# Altium integrated library Lattice CPLD ispMACH.IntLib: 663 symbols (part 16 of 48)
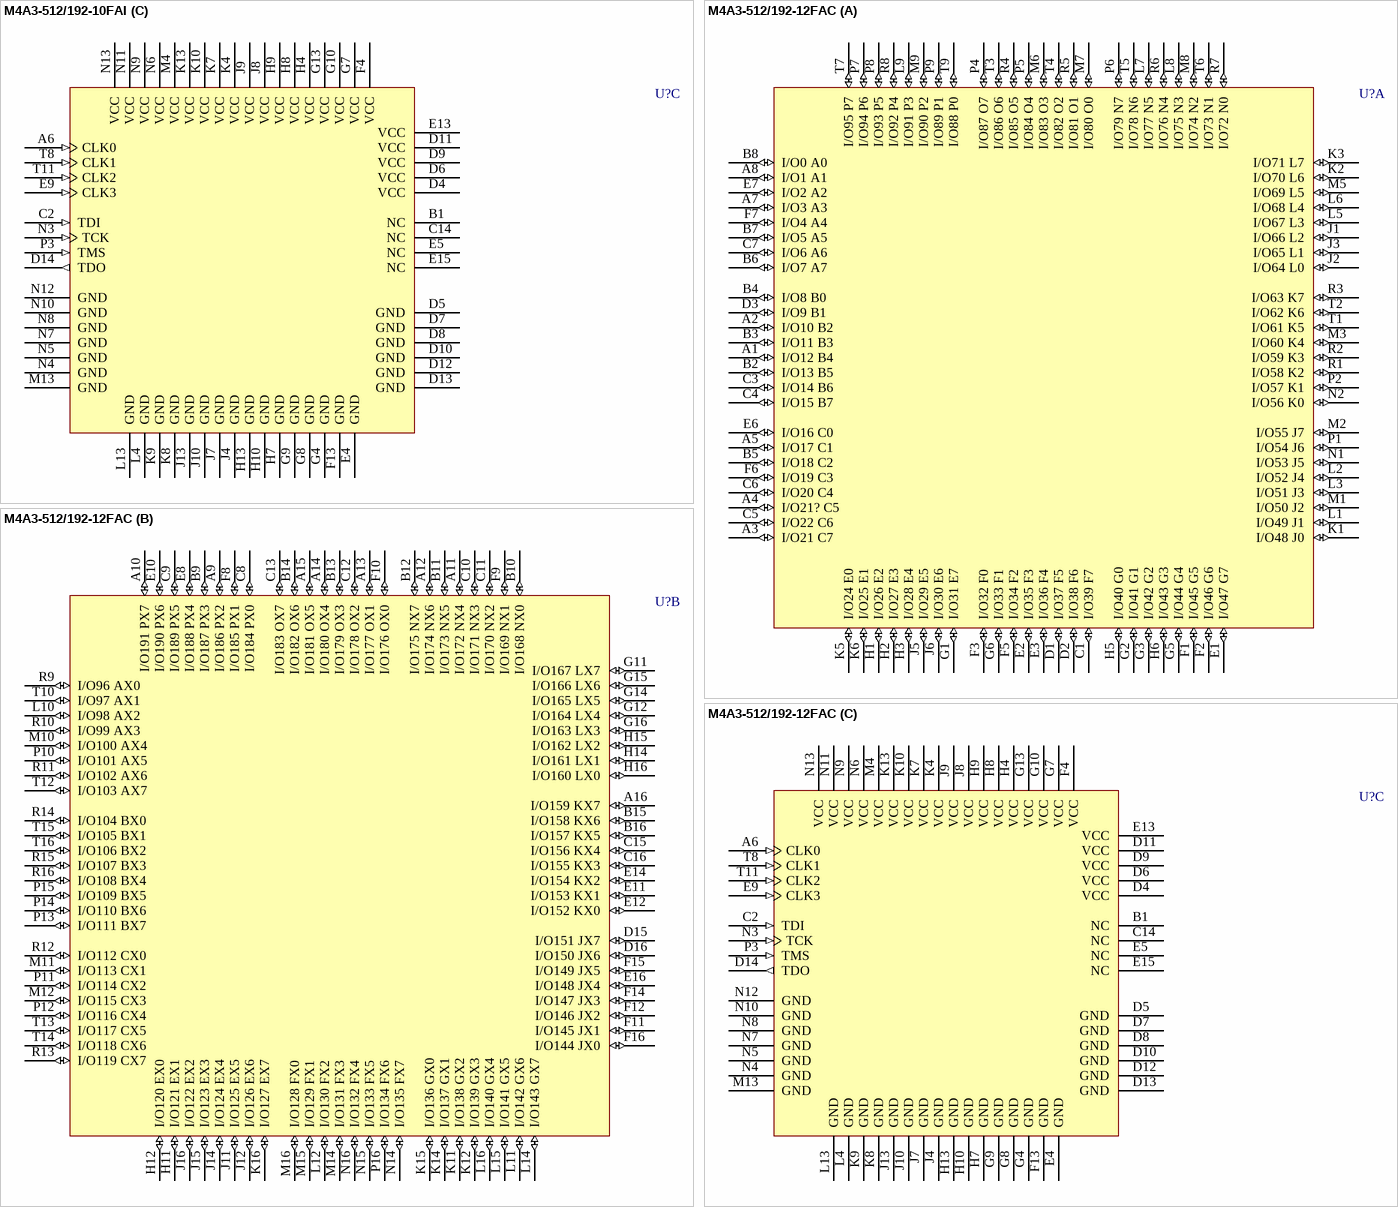
[diagram p321: symbols M4A3-512/192-10FAI to M4A3-512/192-12FAC]

## M4A3-512/192-10FAI
designator U?
High-Performance EE CMOS In-System Programmable Logic; Published: 17-Jul-2002; LatestRevisionDate: 13-Apr-2006; LatestRevisionNote: IPC-7351 Footprint Added.; DatasheetVersion: Feb-2001; PackageVersion: pkg_32, Aug-2005; PackageReference: fpBGA256; Publisher: Altium Limited; PackageDescription: 256-Ball Fine Pitch Ball Grid Array (fpBGA256); Code_IPC: BGA100P16X16-256; ComponentLink1Description: Manufacturer Link; ComponentLink1URL: http://www.latticesemi.com/products/mature/index.cfm; ComponentLink2Description: Datasheet; ComponentLink2URL: http://www.latticesemi.com/account/_download.cfm?AMID=1344
footprint fpBGA256 (BGA, 256-Leads, Body 17x17mm, Pitch 1mm)
3D model M4A3-fpBGA256 (256-Ball Fine Pitch Ball Grid Array (fpBGA256))
part A pins: A1 I/O12 B4 (io), A2 I/O10 B2 (io), A3 I/O21 C7 (io), A4 I/O21? C5 (io), A5 I/O17 C1 (io), A7 I/O3 A3 (io), A8 I/O1 A1 (io), B2 I/O13 B5 (io), B3 I/O11 B3 (io), B4 I/O8 B0 (io), B5 I/O18 C2 (io), B6 I/O7 A7 (io), B7 I/O5 A5 (io), B8 I/O0 A0 (io), C1 I/O39 F7 (io), C3 I/O14 B6 (io), C4 I/O15 B7 (io), C5 I/O22 C6 (io), C6 I/O20 C4 (io), C7 I/O6 A6 (io), D1 I/O37 F5 (io), D2 I/O38 F6 (io), D3 I/O9 B1 (io), E1 I/O47 G7 (io), E2 I/O35 F3 (io), E3 I/O36 F4 (io), E6 I/O16 C0 (io), E7 I/O2 A2 (io), F1 I/O45 G5 (io), F2 I/O46 G6 (io), F3 I/O32 F0 (io), F5 I/O34 F2 (io), F6 I/O19 C3 (io), F7 I/O4 A4 (io), G1 I/O31 E7 (io), G2 I/O41 G1 (io), G3 I/O42 G2 (io), G5 I/O44 G4 (io), G6 I/O33 F1 (io), H1 I/O26 E2 (io), H2 I/O27 E3 (io), H3 I/O28 E4 (io), H5 I/O40 G0 (io), H6 I/O43 G3 (io), J1 I/O66 L2 (io), J2 I/O64 L0 (io), J3 I/O65 L1 (io), J5 I/O29 E5 (io), J6 I/O30 E6 (io), K1 I/O48 J0 (io), K2 I/O70 L6 (io), K3 I/O71 L7 (io), K5 I/O24 E0 (io), K6 I/O25 E1 (io), L1 I/O49 J1 (io), L2 I/O52 J4 (io), L3 I/O51 J3 (io), L5 I/O67 L3 (io), L6 I/O68 L4 (io), L7 I/O77 N5 (io), L8 I/O75 N3 (io), L9 I/O91 P3 (io), M1 I/O50 J2 (io), M2 I/O55 J7 (io), M3 I/O60 K4 (io), M5 I/O69 L5 (io), M6 I/O83 O3 (io), M7 I/O80 O0 (io), M8 I/O74 N2 (io), M9 I/O90 P2 (io), N1 I/O53 J5 (io), N2 I/O56 K0 (io), P1 I/O54 J6 (io), P2 I/O57 K1 (io), P4 I/O87 O7 (io), P5 I/O84 O4 (io), P6 I/O79 N7 (io), P7 I/O94 P6 (io), P8 I/O93 P5 (io), P9 I/O89 P1 (io), R1 I/O58 K2 (io), R2 I/O59 K3 (io), R3 I/O63 K7 (io), R4 I/O85 O5 (io), R5 I/O81 O1 (io), R6 I/O76 N4 (io), R7 I/O72 N0 (io), R8 I/O92 P4 (io), T1 I/O61 K5 (io), T2 I/O62 K6 (io), T3 I/O86 O6 (io), T4 I/O82 O2 (io), T5 I/O78 N6 (io), T6 I/O73 N1 (io), T7 I/O95 P7 (io), T9 I/O88 P0 (io)
part B pins: A9 I/O186 PX2 (io), A10 I/O191 PX7 (io), A11 I/O172 NX4 (io), A12 I/O174 NX6 (io), A13 I/O177 OX1 (io), A14 I/O180 OX4 (io), A15 I/O181 OX5 (io), A16 I/O159 KX7 (io), B9 I/O187 PX3 (io), B10 I/O168 NX0 (io), B11 I/O173 NX5 (io), B12 I/O175 NX7 (io), B13 I/O179 OX3 (io), B14 I/O182 OX6 (io), B15 I/O158 KX6 (io), B16 I/O157 KX5 (io), C8 I/O184 PX0 (io), C9 I/O189 PX5 (io), C10 I/O171 NX3 (io), C11 I/O170 NX2 (io), C12 I/O178 OX2 (io), C13 I/O183 OX7 (io), C15 I/O156 KX4 (io), C16 I/O155 KX3 (io), D15 I/O151 JX7 (io), D16 I/O150 JX6 (io), E8 I/O188 PX4 (io), E10 I/O190 PX6 (io), E11 I/O153 KX1 (io), E12 I/O152 KX0 (io), E14 I/O154 KX2 (io), E16 I/O148 JX4 (io), F8 I/O185 PX1 (io), F9 I/O169 NX1 (io), F10 I/O176 OX0 (io), F11 I/O145 JX1 (io), F12 I/O146 JX2 (io), F14 I/O147 JX3 (io), F15 I/O149 JX5 (io), F16 I/O144 JX0 (io), G11 I/O167 LX7 (io), G12 I/O164 LX4 (io), G14 I/O165 LX5 (io), G15 I/O166 LX6 (io), G16 I/O163 LX3 (io), H11 I/O121 EX1 (io), H12 I/O120 EX0 (io), H14 I/O161 LX1 (io), H15 I/O162 LX2 (io), H16 I/O160 LX0 (io), J11 I/O125 EX5 (io), J12 I/O126 EX6 (io), J14 I/O124 EX4 (io), J15 I/O123 EX3 (io), J16 I/O122 EX2 (io), K11 I/O138 GX2 (io), K12 I/O139 GX3 (io), K14 I/O137 GX1 (io), K15 I/O136 GX0 (io), K16 I/O127 EX7 (io), L10 I/O98 AX2 (io), L11 I/O142 GX6 (io), L12 I/O130 FX2 (io), L14 I/O143 GX7 (io), L15 I/O141 GX5 (io), L16 I/O140 GX4 (io), M10 I/O100 AX4 (io), M11 I/O113 CX1 (io), M12 I/O115 CX3 (io), M14 I/O131 FX3 (io), M15 I/O129 FX1 (io), M16 I/O128 FX0 (io), N14 I/O135 FX7 (io), N15 I/O133 FX5 (io), N16 I/O132 FX4 (io), P10 I/O101 AX5 (io), P11 I/O114 CX2 (io), P12 I/O116 CX4 (io), P13 I/O111 BX7 (io), P14 I/O110 BX6 (io), P15 I/O109 BX5 (io), P16 I/O134 FX6 (io), R9 I/O96 AX0 (io), R10 I/O99 AX3 (io), R11 I/O102 AX6 (io), R12 I/O112 CX0 (io), R13 I/O119 CX7 (io), R14 I/O104 BX0 (io), R15 I/O107 BX3 (io), R16 I/O108 BX4 (io), T10 I/O97 AX1 (io), T12 I/O103 AX7 (io), T13 I/O117 CX5 (io), T14 I/O118 CX6 (io), T15 I/O105 BX1 (io), T16 I/O106 BX2 (io)
part C pins: A6 CLK0 (in), B1 NC, C2 TDI (in), C14 NC, D4 VCC (power), D5 GND (power), D6 VCC (power), D7 GND (power), D8 GND (power), D9 VCC (power), D10 GND (power), D11 VCC (power), D12 GND (power), D13 GND (power), D14 TDO (out), E4 GND (power), E5 NC, E9 CLK3 (in), E13 VCC (power), E15 NC, F4 VCC (power), F13 GND (power), G4 GND (power), G7 VCC (power), G8 GND (power), G9 GND (power), G10 VCC (power), G13 VCC (power), H4 VCC (power), H7 GND (power), H8 VCC (power), H9 VCC (power), H10 GND (power), H13 GND (power), J4 GND (power), J7 GND (power), J8 VCC (power), J9 VCC (power), J10 GND (power), J13 GND (power), K4 VCC (power), K7 VCC (power), K8 GND (power), K9 GND (power), K10 VCC (power), K13 VCC (power), L4 GND (power), L13 GND (power), M4 VCC (power), M13 GND (power), N3 TCK (in), N4 GND (power), N5 GND (power), N6 VCC (power), N7 GND (power), N8 GND (power), N9 VCC (power), N10 GND (power), N11 VCC (power), N12 GND (power), N13 VCC (power), P3 TMS (in), T8 CLK1 (in), T11 CLK2 (in)

## M4A3-512/192-12FAC
designator U?
High-Performance EE CMOS In-System Programmable Logic; Published: 17-Jul-2002; LatestRevisionDate: 13-Apr-2006; LatestRevisionNote: IPC-7351 Footprint Added.; DatasheetVersion: Feb-2001; PackageVersion: pkg_32, Aug-2005; PackageReference: fpBGA256; Publisher: Altium Limited; PackageDescription: 256-Ball Fine Pitch Ball Grid Array (fpBGA256); Code_IPC: BGA100P16X16-256; ComponentLink1Description: Manufacturer Link; ComponentLink1URL: http://www.latticesemi.com/products/mature/index.cfm; ComponentLink2Description: Datasheet; ComponentLink2URL: http://www.latticesemi.com/account/_download.cfm?AMID=1344
footprint fpBGA256 (BGA, 256-Leads, Body 17x17mm, Pitch 1mm)
3D model M4A3-fpBGA256 (256-Ball Fine Pitch Ball Grid Array (fpBGA256))
part A pins: A1 I/O12 B4 (io), A2 I/O10 B2 (io), A3 I/O21 C7 (io), A4 I/O21? C5 (io), A5 I/O17 C1 (io), A7 I/O3 A3 (io), A8 I/O1 A1 (io), B2 I/O13 B5 (io), B3 I/O11 B3 (io), B4 I/O8 B0 (io), B5 I/O18 C2 (io), B6 I/O7 A7 (io), B7 I/O5 A5 (io), B8 I/O0 A0 (io), C1 I/O39 F7 (io), C3 I/O14 B6 (io), C4 I/O15 B7 (io), C5 I/O22 C6 (io), C6 I/O20 C4 (io), C7 I/O6 A6 (io), D1 I/O37 F5 (io), D2 I/O38 F6 (io), D3 I/O9 B1 (io), E1 I/O47 G7 (io), E2 I/O35 F3 (io), E3 I/O36 F4 (io), E6 I/O16 C0 (io), E7 I/O2 A2 (io), F1 I/O45 G5 (io), F2 I/O46 G6 (io), F3 I/O32 F0 (io), F5 I/O34 F2 (io), F6 I/O19 C3 (io), F7 I/O4 A4 (io), G1 I/O31 E7 (io), G2 I/O41 G1 (io), G3 I/O42 G2 (io), G5 I/O44 G4 (io), G6 I/O33 F1 (io), H1 I/O26 E2 (io), H2 I/O27 E3 (io), H3 I/O28 E4 (io), H5 I/O40 G0 (io), H6 I/O43 G3 (io), J1 I/O66 L2 (io), J2 I/O64 L0 (io), J3 I/O65 L1 (io), J5 I/O29 E5 (io), J6 I/O30 E6 (io), K1 I/O48 J0 (io), K2 I/O70 L6 (io), K3 I/O71 L7 (io), K5 I/O24 E0 (io), K6 I/O25 E1 (io), L1 I/O49 J1 (io), L2 I/O52 J4 (io), L3 I/O51 J3 (io), L5 I/O67 L3 (io), L6 I/O68 L4 (io), L7 I/O77 N5 (io), L8 I/O75 N3 (io), L9 I/O91 P3 (io), M1 I/O50 J2 (io), M2 I/O55 J7 (io), M3 I/O60 K4 (io), M5 I/O69 L5 (io), M6 I/O83 O3 (io), M7 I/O80 O0 (io), M8 I/O74 N2 (io), M9 I/O90 P2 (io), N1 I/O53 J5 (io), N2 I/O56 K0 (io), P1 I/O54 J6 (io), P2 I/O57 K1 (io), P4 I/O87 O7 (io), P5 I/O84 O4 (io), P6 I/O79 N7 (io), P7 I/O94 P6 (io), P8 I/O93 P5 (io), P9 I/O89 P1 (io), R1 I/O58 K2 (io), R2 I/O59 K3 (io), R3 I/O63 K7 (io), R4 I/O85 O5 (io), R5 I/O81 O1 (io), R6 I/O76 N4 (io), R7 I/O72 N0 (io), R8 I/O92 P4 (io), T1 I/O61 K5 (io), T2 I/O62 K6 (io), T3 I/O86 O6 (io), T4 I/O82 O2 (io), T5 I/O78 N6 (io), T6 I/O73 N1 (io), T7 I/O95 P7 (io), T9 I/O88 P0 (io)
part B pins: A9 I/O186 PX2 (io), A10 I/O191 PX7 (io), A11 I/O172 NX4 (io), A12 I/O174 NX6 (io), A13 I/O177 OX1 (io), A14 I/O180 OX4 (io), A15 I/O181 OX5 (io), A16 I/O159 KX7 (io), B9 I/O187 PX3 (io), B10 I/O168 NX0 (io), B11 I/O173 NX5 (io), B12 I/O175 NX7 (io), B13 I/O179 OX3 (io), B14 I/O182 OX6 (io), B15 I/O158 KX6 (io), B16 I/O157 KX5 (io), C8 I/O184 PX0 (io), C9 I/O189 PX5 (io), C10 I/O171 NX3 (io), C11 I/O170 NX2 (io), C12 I/O178 OX2 (io), C13 I/O183 OX7 (io), C15 I/O156 KX4 (io), C16 I/O155 KX3 (io), D15 I/O151 JX7 (io), D16 I/O150 JX6 (io), E8 I/O188 PX4 (io), E10 I/O190 PX6 (io), E11 I/O153 KX1 (io), E12 I/O152 KX0 (io), E14 I/O154 KX2 (io), E16 I/O148 JX4 (io), F8 I/O185 PX1 (io), F9 I/O169 NX1 (io), F10 I/O176 OX0 (io), F11 I/O145 JX1 (io), F12 I/O146 JX2 (io), F14 I/O147 JX3 (io), F15 I/O149 JX5 (io), F16 I/O144 JX0 (io), G11 I/O167 LX7 (io), G12 I/O164 LX4 (io), G14 I/O165 LX5 (io), G15 I/O166 LX6 (io), G16 I/O163 LX3 (io), H11 I/O121 EX1 (io), H12 I/O120 EX0 (io), H14 I/O161 LX1 (io), H15 I/O162 LX2 (io), H16 I/O160 LX0 (io), J11 I/O125 EX5 (io), J12 I/O126 EX6 (io), J14 I/O124 EX4 (io), J15 I/O123 EX3 (io), J16 I/O122 EX2 (io), K11 I/O138 GX2 (io), K12 I/O139 GX3 (io), K14 I/O137 GX1 (io), K15 I/O136 GX0 (io), K16 I/O127 EX7 (io), L10 I/O98 AX2 (io), L11 I/O142 GX6 (io), L12 I/O130 FX2 (io), L14 I/O143 GX7 (io), L15 I/O141 GX5 (io), L16 I/O140 GX4 (io), M10 I/O100 AX4 (io), M11 I/O113 CX1 (io), M12 I/O115 CX3 (io), M14 I/O131 FX3 (io), M15 I/O129 FX1 (io), M16 I/O128 FX0 (io), N14 I/O135 FX7 (io), N15 I/O133 FX5 (io), N16 I/O132 FX4 (io), P10 I/O101 AX5 (io), P11 I/O114 CX2 (io), P12 I/O116 CX4 (io), P13 I/O111 BX7 (io), P14 I/O110 BX6 (io), P15 I/O109 BX5 (io), P16 I/O134 FX6 (io), R9 I/O96 AX0 (io), R10 I/O99 AX3 (io), R11 I/O102 AX6 (io), R12 I/O112 CX0 (io), R13 I/O119 CX7 (io), R14 I/O104 BX0 (io), R15 I/O107 BX3 (io), R16 I/O108 BX4 (io), T10 I/O97 AX1 (io), T12 I/O103 AX7 (io), T13 I/O117 CX5 (io), T14 I/O118 CX6 (io), T15 I/O105 BX1 (io), T16 I/O106 BX2 (io)
part C pins: A6 CLK0 (in), B1 NC, C2 TDI (in), C14 NC, D4 VCC (power), D5 GND (power), D6 VCC (power), D7 GND (power), D8 GND (power), D9 VCC (power), D10 GND (power), D11 VCC (power), D12 GND (power), D13 GND (power), D14 TDO (out), E4 GND (power), E5 NC, E9 CLK3 (in), E13 VCC (power), E15 NC, F4 VCC (power), F13 GND (power), G4 GND (power), G7 VCC (power), G8 GND (power), G9 GND (power), G10 VCC (power), G13 VCC (power), H4 VCC (power), H7 GND (power), H8 VCC (power), H9 VCC (power), H10 GND (power), H13 GND (power), J4 GND (power), J7 GND (power), J8 VCC (power), J9 VCC (power), J10 GND (power), J13 GND (power), K4 VCC (power), K7 VCC (power), K8 GND (power), K9 GND (power), K10 VCC (power), K13 VCC (power), L4 GND (power), L13 GND (power), M4 VCC (power), M13 GND (power), N3 TCK (in), N4 GND (power), N5 GND (power), N6 VCC (power), N7 GND (power), N8 GND (power), N9 VCC (power), N10 GND (power), N11 VCC (power), N12 GND (power), N13 VCC (power), P3 TMS (in), T8 CLK1 (in), T11 CLK2 (in)

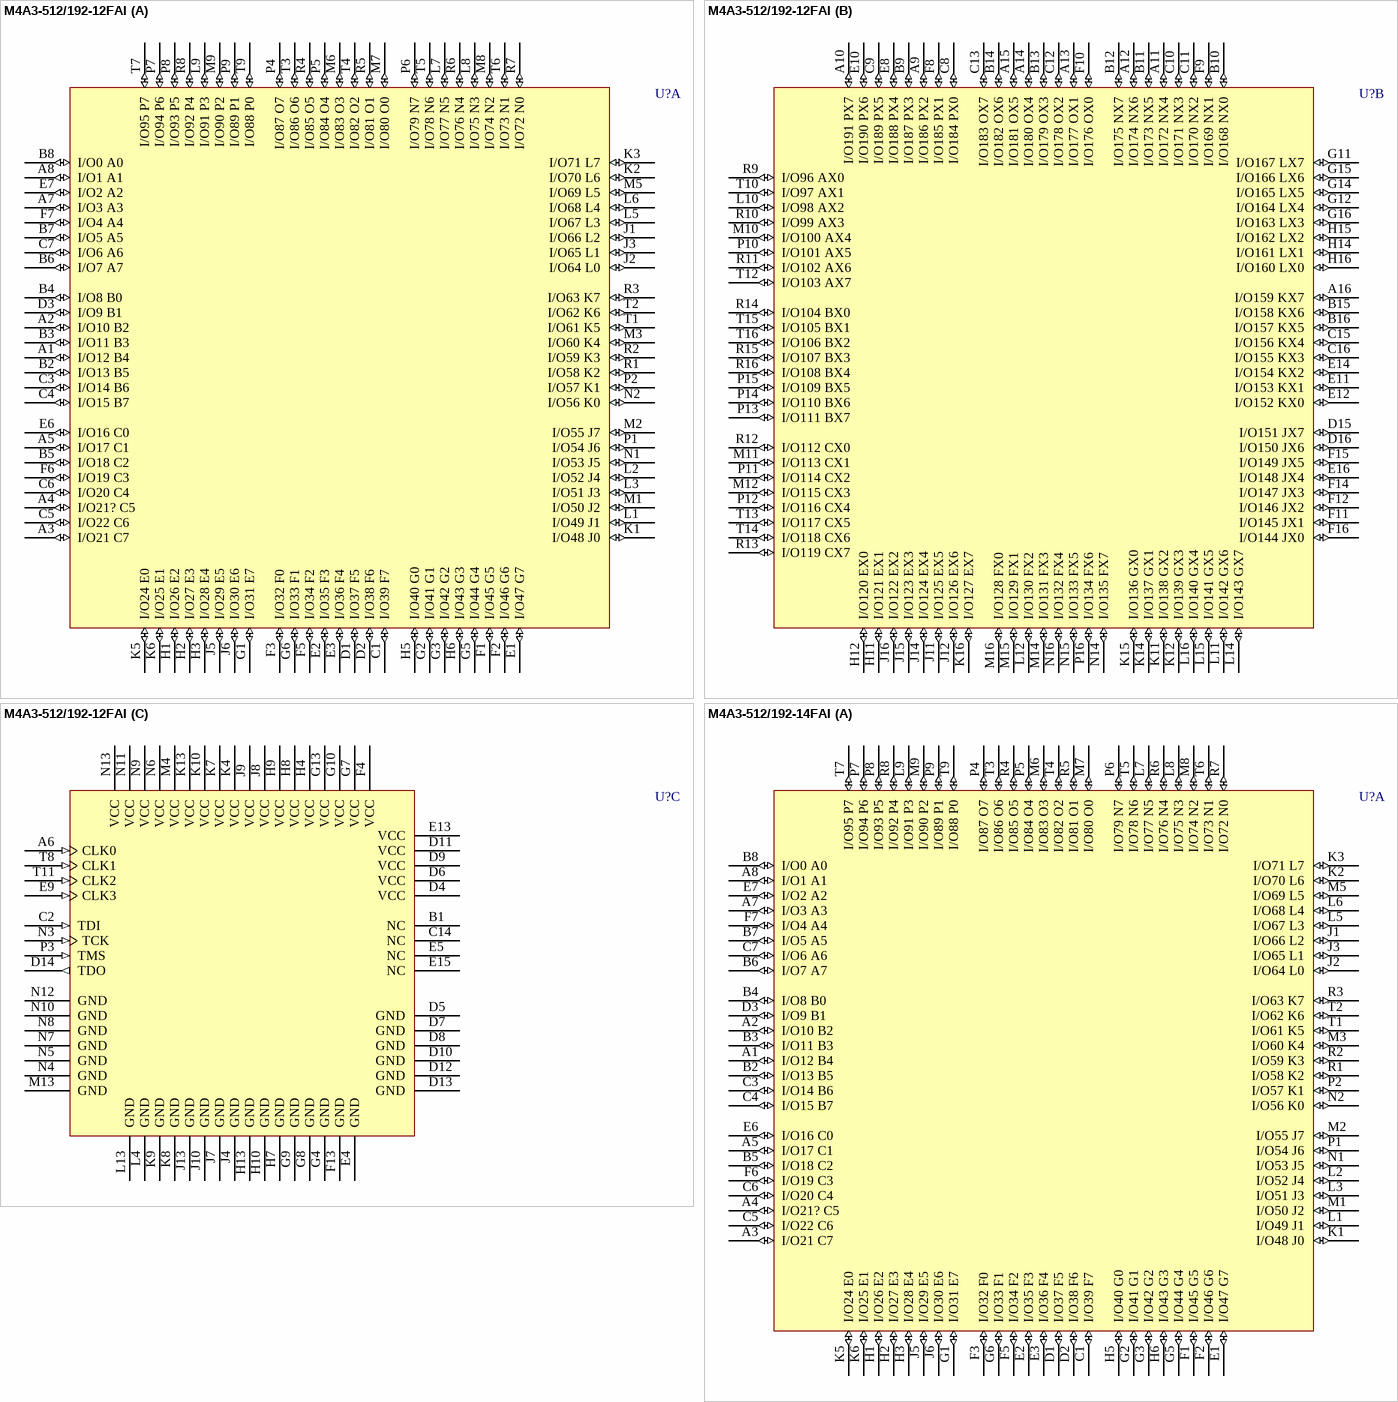
[diagram p95: symbols M4A3-512/192-12FAI to M4A3-512/192-14FAI]

## M4A3-512/192-12FAI
designator U?
High-Performance EE CMOS In-System Programmable Logic; Published: 17-Jul-2002; LatestRevisionDate: 13-Apr-2006; LatestRevisionNote: IPC-7351 Footprint Added.; DatasheetVersion: Feb-2001; PackageVersion: pkg_32, Aug-2005; PackageReference: fpBGA256; Publisher: Altium Limited; PackageDescription: 256-Ball Fine Pitch Ball Grid Array (fpBGA256); Code_IPC: BGA100P16X16-256; ComponentLink1Description: Manufacturer Link; ComponentLink1URL: http://www.latticesemi.com/products/mature/index.cfm; ComponentLink2Description: Datasheet; ComponentLink2URL: http://www.latticesemi.com/account/_download.cfm?AMID=1344
footprint fpBGA256 (BGA, 256-Leads, Body 17x17mm, Pitch 1mm)
3D model M4A3-fpBGA256 (256-Ball Fine Pitch Ball Grid Array (fpBGA256))
part A pins: A1 I/O12 B4 (io), A2 I/O10 B2 (io), A3 I/O21 C7 (io), A4 I/O21? C5 (io), A5 I/O17 C1 (io), A7 I/O3 A3 (io), A8 I/O1 A1 (io), B2 I/O13 B5 (io), B3 I/O11 B3 (io), B4 I/O8 B0 (io), B5 I/O18 C2 (io), B6 I/O7 A7 (io), B7 I/O5 A5 (io), B8 I/O0 A0 (io), C1 I/O39 F7 (io), C3 I/O14 B6 (io), C4 I/O15 B7 (io), C5 I/O22 C6 (io), C6 I/O20 C4 (io), C7 I/O6 A6 (io), D1 I/O37 F5 (io), D2 I/O38 F6 (io), D3 I/O9 B1 (io), E1 I/O47 G7 (io), E2 I/O35 F3 (io), E3 I/O36 F4 (io), E6 I/O16 C0 (io), E7 I/O2 A2 (io), F1 I/O45 G5 (io), F2 I/O46 G6 (io), F3 I/O32 F0 (io), F5 I/O34 F2 (io), F6 I/O19 C3 (io), F7 I/O4 A4 (io), G1 I/O31 E7 (io), G2 I/O41 G1 (io), G3 I/O42 G2 (io), G5 I/O44 G4 (io), G6 I/O33 F1 (io), H1 I/O26 E2 (io), H2 I/O27 E3 (io), H3 I/O28 E4 (io), H5 I/O40 G0 (io), H6 I/O43 G3 (io), J1 I/O66 L2 (io), J2 I/O64 L0 (io), J3 I/O65 L1 (io), J5 I/O29 E5 (io), J6 I/O30 E6 (io), K1 I/O48 J0 (io), K2 I/O70 L6 (io), K3 I/O71 L7 (io), K5 I/O24 E0 (io), K6 I/O25 E1 (io), L1 I/O49 J1 (io), L2 I/O52 J4 (io), L3 I/O51 J3 (io), L5 I/O67 L3 (io), L6 I/O68 L4 (io), L7 I/O77 N5 (io), L8 I/O75 N3 (io), L9 I/O91 P3 (io), M1 I/O50 J2 (io), M2 I/O55 J7 (io), M3 I/O60 K4 (io), M5 I/O69 L5 (io), M6 I/O83 O3 (io), M7 I/O80 O0 (io), M8 I/O74 N2 (io), M9 I/O90 P2 (io), N1 I/O53 J5 (io), N2 I/O56 K0 (io), P1 I/O54 J6 (io), P2 I/O57 K1 (io), P4 I/O87 O7 (io), P5 I/O84 O4 (io), P6 I/O79 N7 (io), P7 I/O94 P6 (io), P8 I/O93 P5 (io), P9 I/O89 P1 (io), R1 I/O58 K2 (io), R2 I/O59 K3 (io), R3 I/O63 K7 (io), R4 I/O85 O5 (io), R5 I/O81 O1 (io), R6 I/O76 N4 (io), R7 I/O72 N0 (io), R8 I/O92 P4 (io), T1 I/O61 K5 (io), T2 I/O62 K6 (io), T3 I/O86 O6 (io), T4 I/O82 O2 (io), T5 I/O78 N6 (io), T6 I/O73 N1 (io), T7 I/O95 P7 (io), T9 I/O88 P0 (io)
part B pins: A9 I/O186 PX2 (io), A10 I/O191 PX7 (io), A11 I/O172 NX4 (io), A12 I/O174 NX6 (io), A13 I/O177 OX1 (io), A14 I/O180 OX4 (io), A15 I/O181 OX5 (io), A16 I/O159 KX7 (io), B9 I/O187 PX3 (io), B10 I/O168 NX0 (io), B11 I/O173 NX5 (io), B12 I/O175 NX7 (io), B13 I/O179 OX3 (io), B14 I/O182 OX6 (io), B15 I/O158 KX6 (io), B16 I/O157 KX5 (io), C8 I/O184 PX0 (io), C9 I/O189 PX5 (io), C10 I/O171 NX3 (io), C11 I/O170 NX2 (io), C12 I/O178 OX2 (io), C13 I/O183 OX7 (io), C15 I/O156 KX4 (io), C16 I/O155 KX3 (io), D15 I/O151 JX7 (io), D16 I/O150 JX6 (io), E8 I/O188 PX4 (io), E10 I/O190 PX6 (io), E11 I/O153 KX1 (io), E12 I/O152 KX0 (io), E14 I/O154 KX2 (io), E16 I/O148 JX4 (io), F8 I/O185 PX1 (io), F9 I/O169 NX1 (io), F10 I/O176 OX0 (io), F11 I/O145 JX1 (io), F12 I/O146 JX2 (io), F14 I/O147 JX3 (io), F15 I/O149 JX5 (io), F16 I/O144 JX0 (io), G11 I/O167 LX7 (io), G12 I/O164 LX4 (io), G14 I/O165 LX5 (io), G15 I/O166 LX6 (io), G16 I/O163 LX3 (io), H11 I/O121 EX1 (io), H12 I/O120 EX0 (io), H14 I/O161 LX1 (io), H15 I/O162 LX2 (io), H16 I/O160 LX0 (io), J11 I/O125 EX5 (io), J12 I/O126 EX6 (io), J14 I/O124 EX4 (io), J15 I/O123 EX3 (io), J16 I/O122 EX2 (io), K11 I/O138 GX2 (io), K12 I/O139 GX3 (io), K14 I/O137 GX1 (io), K15 I/O136 GX0 (io), K16 I/O127 EX7 (io), L10 I/O98 AX2 (io), L11 I/O142 GX6 (io), L12 I/O130 FX2 (io), L14 I/O143 GX7 (io), L15 I/O141 GX5 (io), L16 I/O140 GX4 (io), M10 I/O100 AX4 (io), M11 I/O113 CX1 (io), M12 I/O115 CX3 (io), M14 I/O131 FX3 (io), M15 I/O129 FX1 (io), M16 I/O128 FX0 (io), N14 I/O135 FX7 (io), N15 I/O133 FX5 (io), N16 I/O132 FX4 (io), P10 I/O101 AX5 (io), P11 I/O114 CX2 (io), P12 I/O116 CX4 (io), P13 I/O111 BX7 (io), P14 I/O110 BX6 (io), P15 I/O109 BX5 (io), P16 I/O134 FX6 (io), R9 I/O96 AX0 (io), R10 I/O99 AX3 (io), R11 I/O102 AX6 (io), R12 I/O112 CX0 (io), R13 I/O119 CX7 (io), R14 I/O104 BX0 (io), R15 I/O107 BX3 (io), R16 I/O108 BX4 (io), T10 I/O97 AX1 (io), T12 I/O103 AX7 (io), T13 I/O117 CX5 (io), T14 I/O118 CX6 (io), T15 I/O105 BX1 (io), T16 I/O106 BX2 (io)
part C pins: A6 CLK0 (in), B1 NC, C2 TDI (in), C14 NC, D4 VCC (power), D5 GND (power), D6 VCC (power), D7 GND (power), D8 GND (power), D9 VCC (power), D10 GND (power), D11 VCC (power), D12 GND (power), D13 GND (power), D14 TDO (out), E4 GND (power), E5 NC, E9 CLK3 (in), E13 VCC (power), E15 NC, F4 VCC (power), F13 GND (power), G4 GND (power), G7 VCC (power), G8 GND (power), G9 GND (power), G10 VCC (power), G13 VCC (power), H4 VCC (power), H7 GND (power), H8 VCC (power), H9 VCC (power), H10 GND (power), H13 GND (power), J4 GND (power), J7 GND (power), J8 VCC (power), J9 VCC (power), J10 GND (power), J13 GND (power), K4 VCC (power), K7 VCC (power), K8 GND (power), K9 GND (power), K10 VCC (power), K13 VCC (power), L4 GND (power), L13 GND (power), M4 VCC (power), M13 GND (power), N3 TCK (in), N4 GND (power), N5 GND (power), N6 VCC (power), N7 GND (power), N8 GND (power), N9 VCC (power), N10 GND (power), N11 VCC (power), N12 GND (power), N13 VCC (power), P3 TMS (in), T8 CLK1 (in), T11 CLK2 (in)

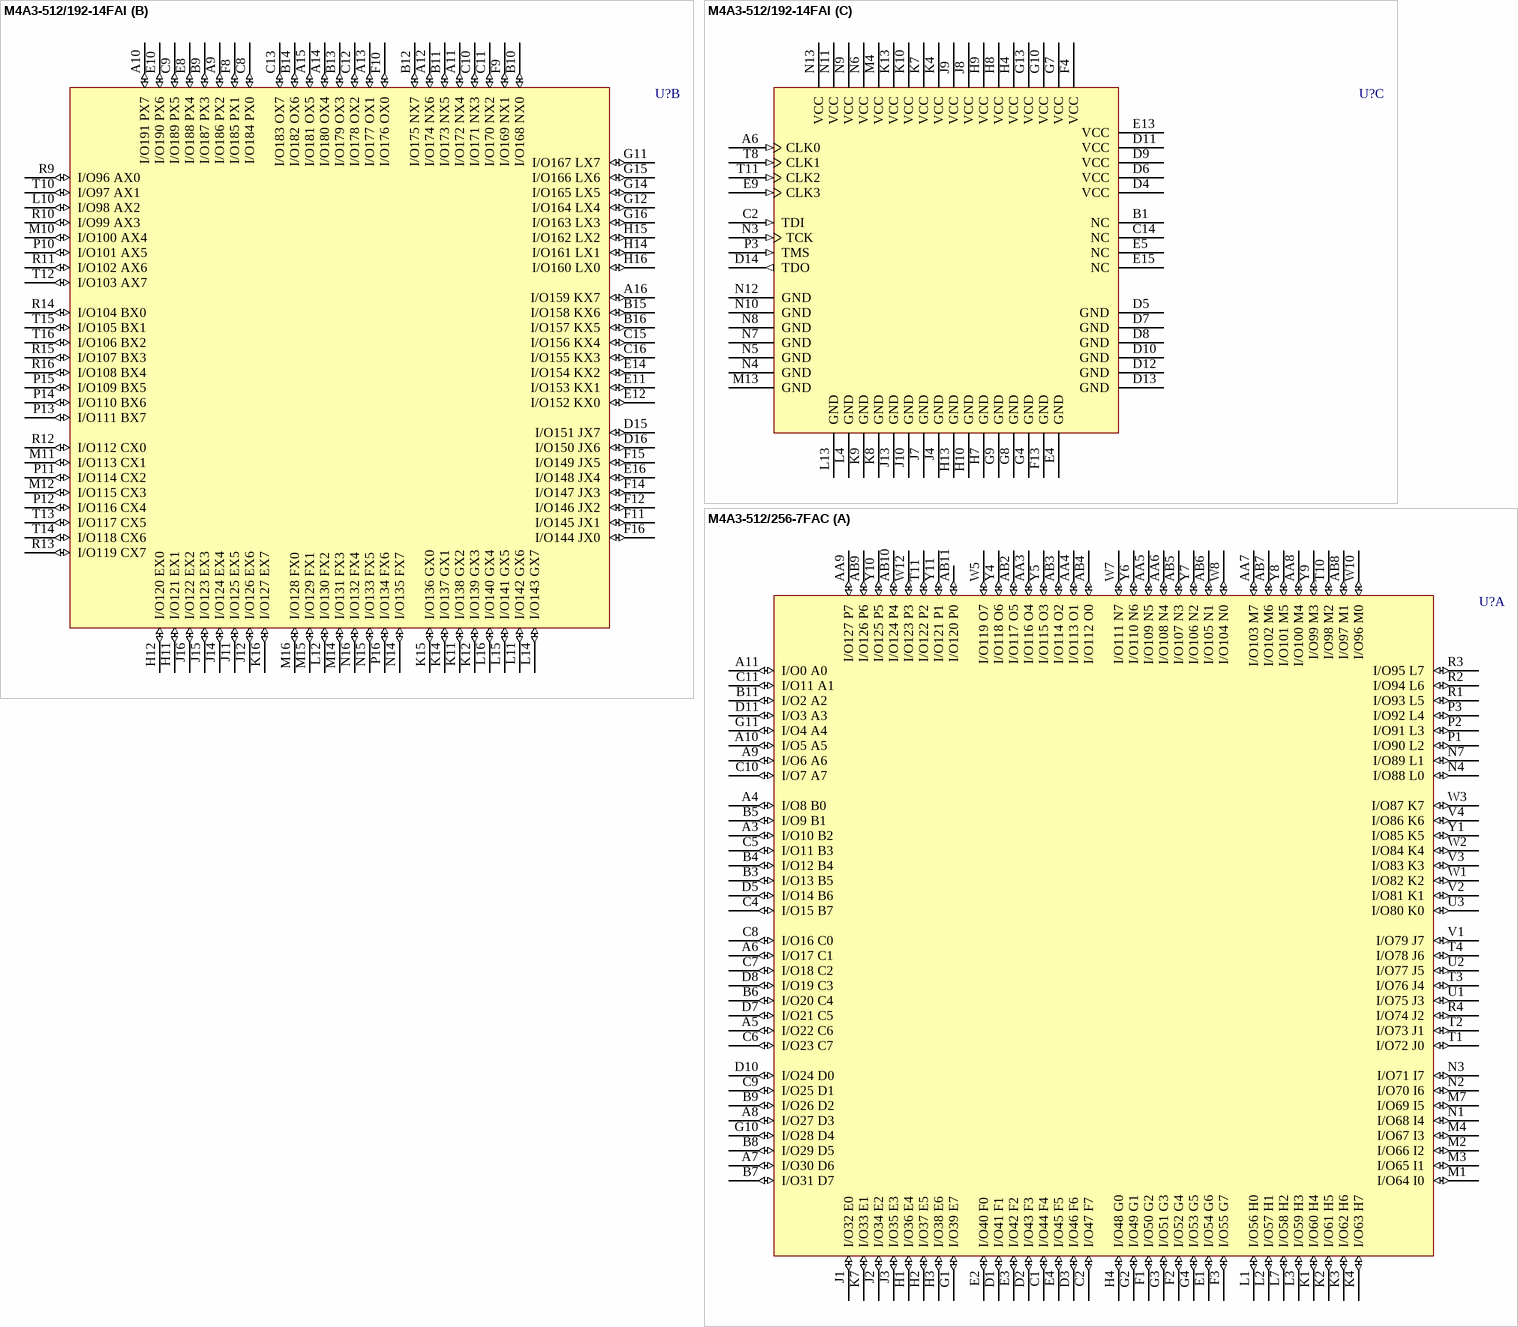
[diagram p96: symbols M4A3-512/192-14FAI to M4A3-512/256-7FAC]

## M4A3-512/192-14FAI
designator U?
High-Performance EE CMOS In-System Programmable Logic; Published: 17-Jul-2002; LatestRevisionDate: 13-Apr-2006; LatestRevisionNote: IPC-7351 Footprint Added.; DatasheetVersion: Feb-2001; PackageVersion: pkg_32, Aug-2005; PackageReference: fpBGA256; Publisher: Altium Limited; PackageDescription: 256-Ball Fine Pitch Ball Grid Array (fpBGA256); Code_IPC: BGA100P16X16-256; ComponentLink1Description: Manufacturer Link; ComponentLink1URL: http://www.latticesemi.com/products/mature/index.cfm; ComponentLink2Description: Datasheet; ComponentLink2URL: http://www.latticesemi.com/account/_download.cfm?AMID=1344
footprint fpBGA256 (BGA, 256-Leads, Body 17x17mm, Pitch 1mm)
3D model M4A3-fpBGA256 (256-Ball Fine Pitch Ball Grid Array (fpBGA256))
part A pins: A1 I/O12 B4 (io), A2 I/O10 B2 (io), A3 I/O21 C7 (io), A4 I/O21? C5 (io), A5 I/O17 C1 (io), A7 I/O3 A3 (io), A8 I/O1 A1 (io), B2 I/O13 B5 (io), B3 I/O11 B3 (io), B4 I/O8 B0 (io), B5 I/O18 C2 (io), B6 I/O7 A7 (io), B7 I/O5 A5 (io), B8 I/O0 A0 (io), C1 I/O39 F7 (io), C3 I/O14 B6 (io), C4 I/O15 B7 (io), C5 I/O22 C6 (io), C6 I/O20 C4 (io), C7 I/O6 A6 (io), D1 I/O37 F5 (io), D2 I/O38 F6 (io), D3 I/O9 B1 (io), E1 I/O47 G7 (io), E2 I/O35 F3 (io), E3 I/O36 F4 (io), E6 I/O16 C0 (io), E7 I/O2 A2 (io), F1 I/O45 G5 (io), F2 I/O46 G6 (io), F3 I/O32 F0 (io), F5 I/O34 F2 (io), F6 I/O19 C3 (io), F7 I/O4 A4 (io), G1 I/O31 E7 (io), G2 I/O41 G1 (io), G3 I/O42 G2 (io), G5 I/O44 G4 (io), G6 I/O33 F1 (io), H1 I/O26 E2 (io), H2 I/O27 E3 (io), H3 I/O28 E4 (io), H5 I/O40 G0 (io), H6 I/O43 G3 (io), J1 I/O66 L2 (io), J2 I/O64 L0 (io), J3 I/O65 L1 (io), J5 I/O29 E5 (io), J6 I/O30 E6 (io), K1 I/O48 J0 (io), K2 I/O70 L6 (io), K3 I/O71 L7 (io), K5 I/O24 E0 (io), K6 I/O25 E1 (io), L1 I/O49 J1 (io), L2 I/O52 J4 (io), L3 I/O51 J3 (io), L5 I/O67 L3 (io), L6 I/O68 L4 (io), L7 I/O77 N5 (io), L8 I/O75 N3 (io), L9 I/O91 P3 (io), M1 I/O50 J2 (io), M2 I/O55 J7 (io), M3 I/O60 K4 (io), M5 I/O69 L5 (io), M6 I/O83 O3 (io), M7 I/O80 O0 (io), M8 I/O74 N2 (io), M9 I/O90 P2 (io), N1 I/O53 J5 (io), N2 I/O56 K0 (io), P1 I/O54 J6 (io), P2 I/O57 K1 (io), P4 I/O87 O7 (io), P5 I/O84 O4 (io), P6 I/O79 N7 (io), P7 I/O94 P6 (io), P8 I/O93 P5 (io), P9 I/O89 P1 (io), R1 I/O58 K2 (io), R2 I/O59 K3 (io), R3 I/O63 K7 (io), R4 I/O85 O5 (io), R5 I/O81 O1 (io), R6 I/O76 N4 (io), R7 I/O72 N0 (io), R8 I/O92 P4 (io), T1 I/O61 K5 (io), T2 I/O62 K6 (io), T3 I/O86 O6 (io), T4 I/O82 O2 (io), T5 I/O78 N6 (io), T6 I/O73 N1 (io), T7 I/O95 P7 (io), T9 I/O88 P0 (io)
part B pins: A9 I/O186 PX2 (io), A10 I/O191 PX7 (io), A11 I/O172 NX4 (io), A12 I/O174 NX6 (io), A13 I/O177 OX1 (io), A14 I/O180 OX4 (io), A15 I/O181 OX5 (io), A16 I/O159 KX7 (io), B9 I/O187 PX3 (io), B10 I/O168 NX0 (io), B11 I/O173 NX5 (io), B12 I/O175 NX7 (io), B13 I/O179 OX3 (io), B14 I/O182 OX6 (io), B15 I/O158 KX6 (io), B16 I/O157 KX5 (io), C8 I/O184 PX0 (io), C9 I/O189 PX5 (io), C10 I/O171 NX3 (io), C11 I/O170 NX2 (io), C12 I/O178 OX2 (io), C13 I/O183 OX7 (io), C15 I/O156 KX4 (io), C16 I/O155 KX3 (io), D15 I/O151 JX7 (io), D16 I/O150 JX6 (io), E8 I/O188 PX4 (io), E10 I/O190 PX6 (io), E11 I/O153 KX1 (io), E12 I/O152 KX0 (io), E14 I/O154 KX2 (io), E16 I/O148 JX4 (io), F8 I/O185 PX1 (io), F9 I/O169 NX1 (io), F10 I/O176 OX0 (io), F11 I/O145 JX1 (io), F12 I/O146 JX2 (io), F14 I/O147 JX3 (io), F15 I/O149 JX5 (io), F16 I/O144 JX0 (io), G11 I/O167 LX7 (io), G12 I/O164 LX4 (io), G14 I/O165 LX5 (io), G15 I/O166 LX6 (io), G16 I/O163 LX3 (io), H11 I/O121 EX1 (io), H12 I/O120 EX0 (io), H14 I/O161 LX1 (io), H15 I/O162 LX2 (io), H16 I/O160 LX0 (io), J11 I/O125 EX5 (io), J12 I/O126 EX6 (io), J14 I/O124 EX4 (io), J15 I/O123 EX3 (io), J16 I/O122 EX2 (io), K11 I/O138 GX2 (io), K12 I/O139 GX3 (io), K14 I/O137 GX1 (io), K15 I/O136 GX0 (io), K16 I/O127 EX7 (io), L10 I/O98 AX2 (io), L11 I/O142 GX6 (io), L12 I/O130 FX2 (io), L14 I/O143 GX7 (io), L15 I/O141 GX5 (io), L16 I/O140 GX4 (io), M10 I/O100 AX4 (io), M11 I/O113 CX1 (io), M12 I/O115 CX3 (io), M14 I/O131 FX3 (io), M15 I/O129 FX1 (io), M16 I/O128 FX0 (io), N14 I/O135 FX7 (io), N15 I/O133 FX5 (io), N16 I/O132 FX4 (io), P10 I/O101 AX5 (io), P11 I/O114 CX2 (io), P12 I/O116 CX4 (io), P13 I/O111 BX7 (io), P14 I/O110 BX6 (io), P15 I/O109 BX5 (io), P16 I/O134 FX6 (io), R9 I/O96 AX0 (io), R10 I/O99 AX3 (io), R11 I/O102 AX6 (io), R12 I/O112 CX0 (io), R13 I/O119 CX7 (io), R14 I/O104 BX0 (io), R15 I/O107 BX3 (io), R16 I/O108 BX4 (io), T10 I/O97 AX1 (io), T12 I/O103 AX7 (io), T13 I/O117 CX5 (io), T14 I/O118 CX6 (io), T15 I/O105 BX1 (io), T16 I/O106 BX2 (io)
part C pins: A6 CLK0 (in), B1 NC, C2 TDI (in), C14 NC, D4 VCC (power), D5 GND (power), D6 VCC (power), D7 GND (power), D8 GND (power), D9 VCC (power), D10 GND (power), D11 VCC (power), D12 GND (power), D13 GND (power), D14 TDO (out), E4 GND (power), E5 NC, E9 CLK3 (in), E13 VCC (power), E15 NC, F4 VCC (power), F13 GND (power), G4 GND (power), G7 VCC (power), G8 GND (power), G9 GND (power), G10 VCC (power), G13 VCC (power), H4 VCC (power), H7 GND (power), H8 VCC (power), H9 VCC (power), H10 GND (power), H13 GND (power), J4 GND (power), J7 GND (power), J8 VCC (power), J9 VCC (power), J10 GND (power), J13 GND (power), K4 VCC (power), K7 VCC (power), K8 GND (power), K9 GND (power), K10 VCC (power), K13 VCC (power), L4 GND (power), L13 GND (power), M4 VCC (power), M13 GND (power), N3 TCK (in), N4 GND (power), N5 GND (power), N6 VCC (power), N7 GND (power), N8 GND (power), N9 VCC (power), N10 GND (power), N11 VCC (power), N12 GND (power), N13 VCC (power), P3 TMS (in), T8 CLK1 (in), T11 CLK2 (in)

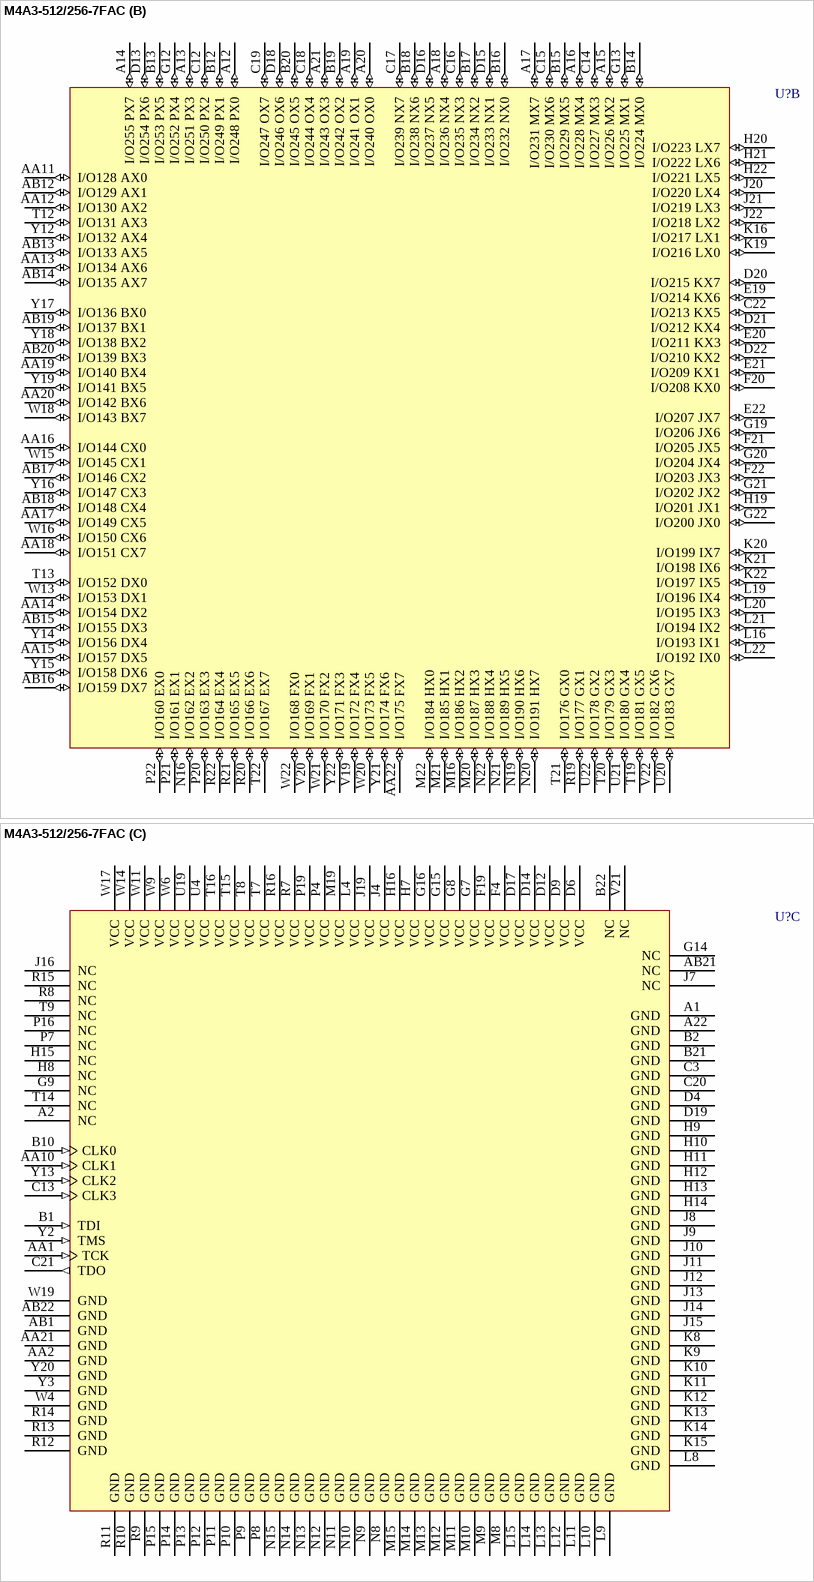
[diagram p97: symbol M4A3-512/256-7FAC]

## M4A3-512/256-7FAC
designator U?
High-Performance EE CMOS In-System Programmable Logic; Published: 17-Jul-2002; LatestRevisionDate: 13-Apr-2006; LatestRevisionNote: IPC-7351 Footprint Added.; DatasheetVersion: Feb-2001; PackageVersion: pkg_32, Aug-2005; PackageReference: fpBGA388; Publisher: Altium Limited; PackageDescription: 388-Ball Fine Pitch Ball Grid Array (fpBGA388); ComponentLink1Description: Manufacturer Link; ComponentLink1URL: http://www.latticesemi.com/products/mature/index.cfm; ComponentLink2Description: Datasheet; ComponentLink2URL: http://www.latticesemi.com/account/_download.cfm?AMID=1344
footprint fpBGA388 (BGA, 388-Leads, Body 23x23mm, Pitch 1mm)
3D model M4A3-fpBGA388 (388-Ball Fine Pitch Ball Grid Array (fpBGA388))
part A pins: A3 I/O10 B2 (io), A4 I/O8 B0 (io), A5 I/O22 C6 (io), A6 I/O17 C1 (io), A7 I/O30 D6 (io), A8 I/O27 D3 (io), A9 I/O6 A6 (io), A10 I/O5 A5 (io), A11 I/O0 A0 (io), AA3 I/O116 O4 (io), AA4 I/O113 O1 (io), AA5 I/O109 N5 (io), AA6 I/O108 N4 (io), AA7 I/O103 M7 (io), AA8 I/O100 M4 (io), AA9 I/O127 P7 (io), AB2 I/O117 O5 (io), AB3 I/O114 O2 (io), AB4 I/O112 O0 (io), AB5 I/O107 N3 (io), AB6 I/O105 N1 (io), AB7 I/O102 M6 (io), AB8 I/O97 M1 (io), AB9 I/O126 P6 (io), AB10 I/O124 P4 (io), AB11 I/O120 P0 (io), B3 I/O13 B5 (io), B4 I/O12 B4 (io), B5 I/O9 B1 (io), B6 I/O20 C4 (io), B7 I/O31 D7 (io), B8 I/O29 D5 (io), B9 I/O26 D2 (io), B11 I/O2 A2 (io), C1 I/O44 F4 (io), C2 I/O47 F7 (io), C4 I/O15 B7 (io), C5 I/O11 B3 (io), C6 I/O23 C7 (io), C7 I/O18 C2 (io), C8 I/O16 C0 (io), C9 I/O25 D1 (io), C10 I/O7 A7 (io), C11 I/O11 A1 (io), D1 I/O41 F1 (io), D2 I/O43 F3 (io), D3 I/O46 F6 (io), D5 I/O14 B6 (io), D7 I/O21 C5 (io), D8 I/O19 C3 (io), D10 I/O24 D0 (io), D11 I/O3 A3 (io), E1 I/O54 G6 (io), E2 I/O40 F0 (io), E3 I/O42 F2 (io), E4 I/O45 F5 (io), F1 I/O50 G2 (io), F2 I/O52 G4 (io), F3 I/O55 G7 (io), G1 I/O39 E7 (io), G2 I/O49 G1 (io), G3 I/O51 G3 (io), G4 I/O53 G5 (io), G10 I/O28 D4 (io), G11 I/O4 A4 (io), H1 I/O36 E4 (io), H2 I/O37 E5 (io), H3 I/O38 E6 (io), H4 I/O48 G0 (io), J1 I/O32 E0 (io), J2 I/O34 E2 (io), J3 I/O35 E3 (io), K1 I/O60 H4 (io), K2 I/O61 H5 (io), K3 I/O62 H6 (io), K4 I/O63 H7 (io), K7 I/O33 E1 (io), L1 I/O56 H0 (io), L2 I/O57 H1 (io), L3 I/O59 H3 (io), L7 I/O58 H2 (io), M1 I/O64 I0 (io), M2 I/O66 I2 (io), M3 I/O65 I1 (io), M4 I/O67 I3 (io), M7 I/O69 I5 (io), N1 I/O68 I4 (io), N2 I/O70 I6 (io), N3 I/O71 I7 (io), N4 I/O88 L0 (io), N7 I/O89 L1 (io), P1 I/O90 L2 (io), P2 I/O91 L3 (io), P3 I/O92 L4 (io), R1 I/O93 L5 (io), R2 I/O94 L6 (io), R3 I/O95 L7 (io), R4 I/O74 J2 (io), T1 I/O72 J0 (io), T2 I/O73 J1 (io), T3 I/O76 J4 (io), T4 I/O78 J6 (io), T10 I/O98 M2 (io), T11 I/O122 P2 (io), U1 I/O75 J3 (io), U2 I/O77 J5 (io), U3 I/O80 K0 (io), V1 I/O79 J7 (io), V2 I/O81 K1 (io), V3 I/O83 K3 (io), V4 I/O86 K6 (io), W1 I/O82 K2 (io), W2 I/O84 K4 (io), W3 I/O87 K7 (io), W5 I/O119 O7 (io), W7 I/O111 N7 (io), W8 I/O104 N0 (io), W10 I/O96 M0 (io), W12 I/O123 P3 (io), Y1 I/O85 K5 (io), Y4 I/O118 O6 (io), Y5 I/O115 O3 (io), Y6 I/O110 N6 (io), Y7 I/O106 N2 (io), Y8 I/O101 M5 (io), Y9 I/O99 M3 (io), Y10 I/O125 P5 (io), Y11 I/O121 P1 (io)
part B pins: A12 I/O248 PX0 (io), A13 I/O251 PX3 (io), A14 I/O255 PX7 (io), A15 I/O226 MX2 (io), A16 I/O228 MX4 (io), A17 I/O231 MX7 (io), A18 I/O236 NX4 (io), A19 I/O241 OX1 (io), A20 I/O240 OX0 (io), A21 I/O243 OX3 (io), AA11 I/O128 AX0 (io), AA12 I/O130 AX2 (io), AA13 I/O134 AX6 (io), AA14 I/O154 DX2 (io), AA15 I/O157 DX5 (io), AA16 I/O144 CX0 (io), AA17 I/O149 CX5 (io), AA18 I/O151 CX7 (io), AA19 I/O140 BX4 (io), AA20 I/O142 BX6 (io), AA22 I/O175 FX7 (io), AB12 I/O129 AX1 (io), AB13 I/O133 AX5 (io), AB14 I/O135 AX7 (io), AB15 I/O155 DX3 (io), AB16 I/O159 DX7 (io), AB17 I/O146 CX2 (io), AB18 I/O148 CX4 (io), AB19 I/O137 BX1 (io), AB20 I/O139 BX3 (io), B12 I/O249 PX1 (io), B13 I/O253 PX5 (io), B14 I/O224 MX0 (io), B15 I/O229 MX5 (io), B16 I/O232 NX0 (io), B17 I/O234 NX2 (io), B18 I/O238 NX6 (io), B19 I/O242 OX2 (io), B20 I/O245 OX5 (io), C12 I/O250 PX2 (io), C14 I/O227 MX3 (io), C15 I/O230 MX6 (io), C16 I/O235 NX3 (io), C17 I/O239 NX7 (io), C18 I/O244 OX4 (io), C19 I/O247 OX7 (io), C22 I/O213 KX5 (io), D13 I/O254 PX6 (io), D15 I/O233 NX1 (io), D16 I/O237 NX5 (io), D18 I/O246 OX6 (io), D20 I/O215 KX7 (io), D21 I/O212 KX4 (io), D22 I/O210 KX2 (io), E19 I/O214 KX6 (io), E20 I/O211 KX3 (io), E21 I/O209 KX1 (io), E22 I/O207 JX7 (io), F20 I/O208 KX0 (io), F21 I/O205 JX5 (io), F22 I/O203 JX3 (io), G12 I/O252 PX4 (io), G13 I/O225 MX1 (io), G19 I/O206 JX6 (io), G20 I/O204 JX4 (io), G21 I/O202 JX2 (io), G22 I/O200 JX0 (io), H19 I/O201 JX1 (io), H20 I/O223 LX7 (io), H21 I/O222 LX6 (io), H22 I/O221 LX5 (io), J20 I/O220 LX4 (io), J21 I/O219 LX3 (io), J22 I/O218 LX2 (io), K16 I/O217 LX1 (io), K19 I/O216 LX0 (io), K20 I/O199 IX7 (io), K21 I/O198 IX6 (io), K22 I/O197 IX5 (io), L16 I/O193 IX1 (io), L19 I/O196 IX4 (io), L20 I/O195 IX3 (io), L21 I/O194 IX2 (io), L22 I/O192 IX0 (io), M16 I/O186 HX2 (io), M20 I/O187 HX3 (io), M21 I/O185 HX1 (io), M22 I/O184 HX0 (io), N16 I/O162 EX2 (io), N19 I/O190 HX6 (io), N20 I/O191 HX7 (io), N21 I/O189 HX5 (io), N22 I/O188 HX4 (io), P20 I/O163 EX3 (io), P21 I/O161 EX1 (io), P22 I/O160 EX0 (io), R19 I/O177 GX1 (io), R20 I/O166 EX6 (io), R21 I/O165 EX5 (io), R22 I/O164 EX4 (io), T12 I/O131 AX3 (io), T13 I/O152 DX0 (io), T19 I/O181 GX5 (io), T20 I/O179 GX3 (io), T21 I/O176 GX0 (io), T22 I/O167 EX7 (io), U20 I/O183 GX7 (io), U21 I/O180 GX4 (io), U22 I/O178 GX2 (io), V19 I/O172 FX4 (io), V20 I/O169 FX1 (io), V22 I/O182 GX6 (io), W13 I/O153 DX1 (io), W15 I/O145 CX1 (io), W16 I/O150 CX6 (io), W18 I/O143 BX7 (io), W20 I/O173 FX5 (io), W21 I/O170 FX2 (io), W22 I/O168 FX0 (io), Y12 I/O132 AX4 (io), Y14 I/O156 DX4 (io), Y15 I/O158 DX6 (io), Y16 I/O147 CX3 (io), Y17 I/O136 BX0 (io), Y18 I/O138 BX2 (io), Y19 I/O141 BX5 (io), Y21 I/O174 FX6 (io), Y22 I/O171 FX3 (io)
part C pins: A1 GND (power), A2 NC, A22 GND (power), AA1 TCK (in), AA2 GND (power), AA10 CLK1 (in), AA21 GND (power), AB1 GND (power), AB21 NC, AB22 GND (power), B1 TDI (in), B2 GND (power), B10 CLK0 (in), B21 GND (power), B22 NC, C3 GND (power), C13 CLK3 (in), C20 GND (power), C21 TDO (out), D4 GND (power), D6 VCC (power), D9 VCC (power), D12 VCC (power), D14 VCC (power), D17 VCC (power), D19 GND (power), F4 VCC (power), F19 VCC (power), G7 VCC (power), G8 VCC (power), G9 NC, G14 NC, G15 VCC (power), G16 VCC (power), H7 VCC (power), H8 NC, H9 GND (power), H10 GND (power), H11 GND (power), H12 GND (power), H13 GND (power), H14 GND (power), H15 NC, H16 VCC (power), J4 VCC (power), J7 NC, J8 GND (power), J9 GND (power), J10 GND (power), J11 GND (power), J12 GND (power), J13 GND (power), J14 GND (power), J15 GND (power), J16 NC, J19 VCC (power), K8 GND (power), K9 GND (power), K10 GND (power), K11 GND (power), K12 GND (power), K13 GND (power), K14 GND (power), K15 GND (power), L4 VCC (power), L8 GND (power), L9 GND (power), L10 GND (power), L11 GND (power), L12 GND (power), L13 GND (power), L14 GND (power), L15 GND (power), M8 GND (power), M9 GND (power), M10 GND (power), M11 GND (power), M12 GND (power), M13 GND (power), M14 GND (power), M15 GND (power), M19 VCC (power), N8 GND (power), N9 GND (power), N10 GND (power), N11 GND (power), N12 GND (power), N13 GND (power), N14 GND (power), N15 GND (power), P4 VCC (power), P7 NC, P8 GND (power), P9 GND (power), P10 GND (power), P11 GND (power), P12 GND (power), P13 GND (power), P14 GND (power), P15 GND (power), P16 NC, P19 VCC (power), R7 VCC (power), R8 NC, R9 GND (power), R10 GND (power), R11 GND (power), R12 GND (power), R13 GND (power), R14 GND (power), R15 NC, R16 VCC (power), T7 VCC (power), T8 VCC (power), T9 NC, T14 NC, T15 VCC (power), T16 VCC (power), U4 VCC (power), U19 VCC (power), V21 NC, W4 GND (power), W6 VCC (power), W9 VCC (power), W11 VCC (power), W14 VCC (power), W17 VCC (power), W19 GND (power), Y2 TMS (in), Y3 GND (power), Y13 CLK2 (in), Y20 GND (power)

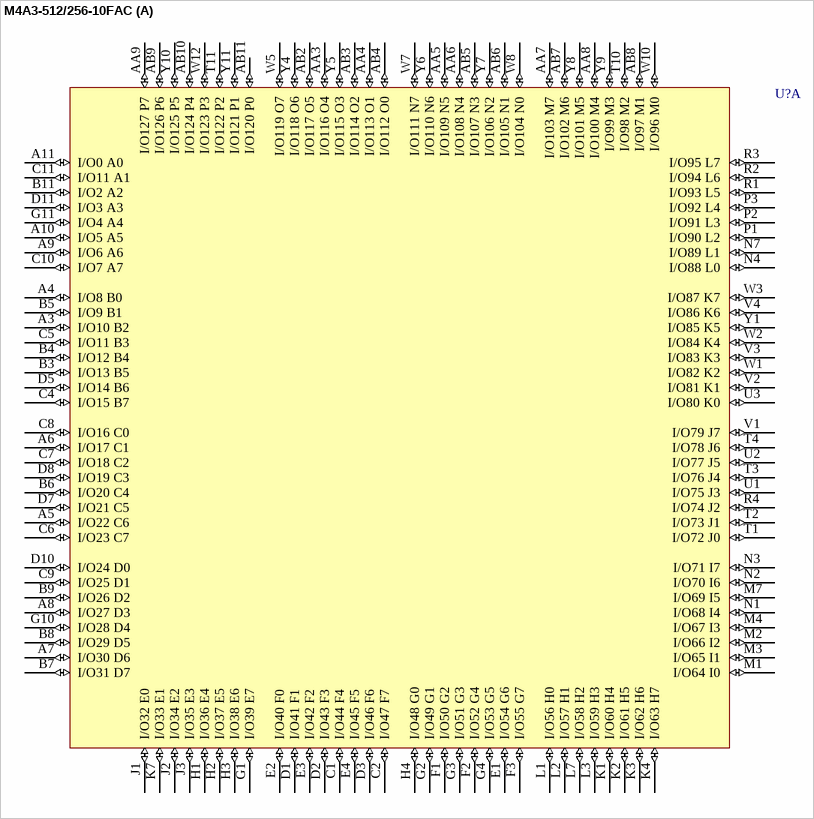
[diagram p98: symbol M4A3-512/256-10FAC]

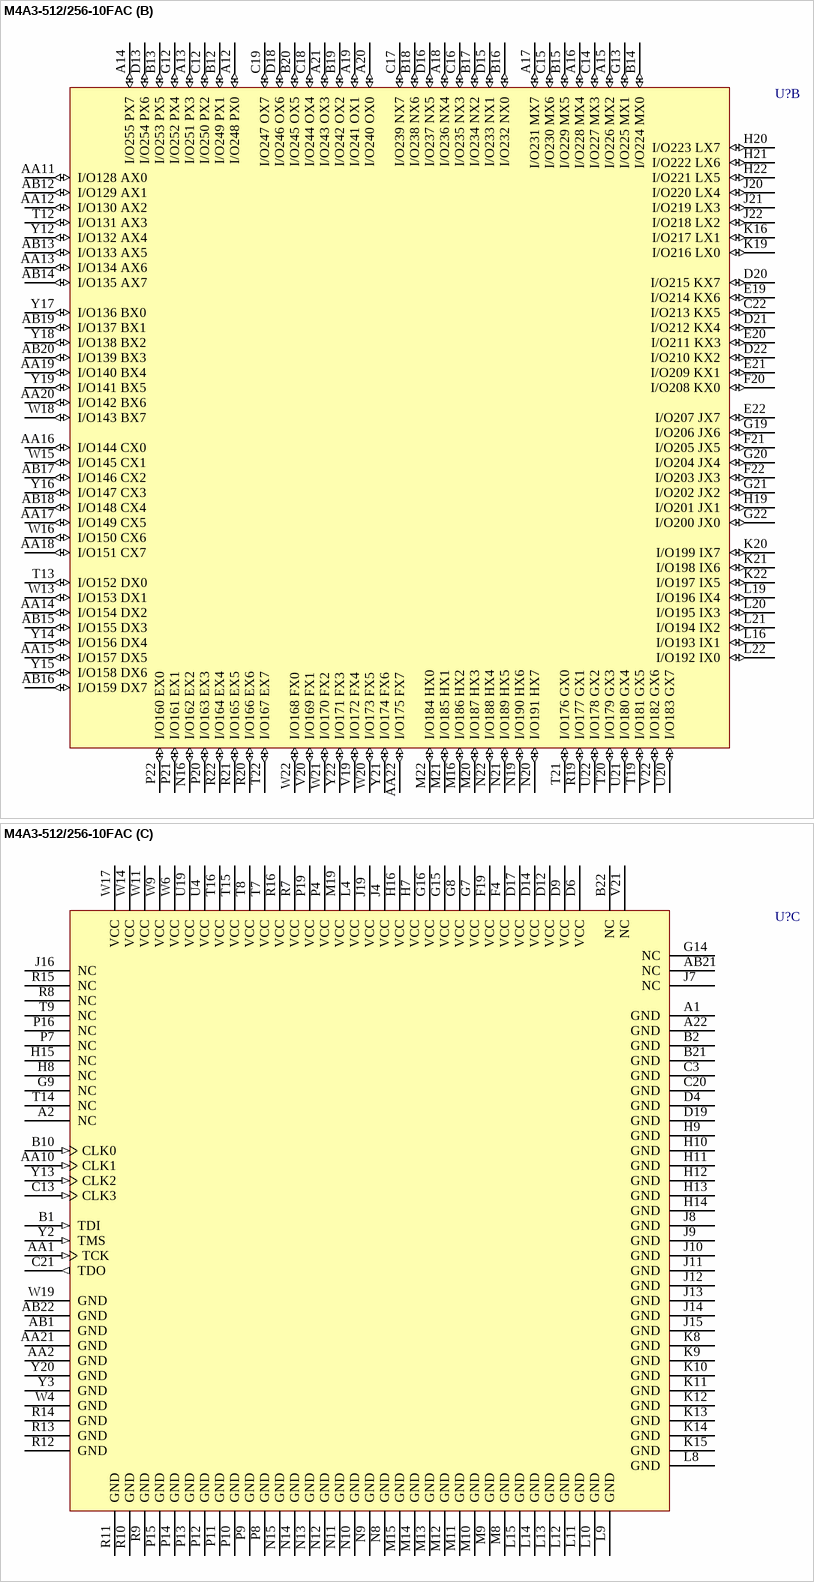
[diagram p99: symbol M4A3-512/256-10FAC]

## M4A3-512/256-10FAC
designator U?
High-Performance EE CMOS In-System Programmable Logic; Published: 17-Jul-2002; LatestRevisionDate: 13-Apr-2006; LatestRevisionNote: IPC-7351 Footprint Added.; DatasheetVersion: Feb-2001; PackageVersion: pkg_32, Aug-2005; PackageReference: fpBGA388; Publisher: Altium Limited; PackageDescription: 388-Ball Fine Pitch Ball Grid Array (fpBGA388); ComponentLink1Description: Manufacturer Link; ComponentLink1URL: http://www.latticesemi.com/products/mature/index.cfm; ComponentLink2Description: Datasheet; ComponentLink2URL: http://www.latticesemi.com/account/_download.cfm?AMID=1344
footprint fpBGA388 (BGA, 388-Leads, Body 23x23mm, Pitch 1mm)
3D model M4A3-fpBGA388 (388-Ball Fine Pitch Ball Grid Array (fpBGA388))
part A pins: A3 I/O10 B2 (io), A4 I/O8 B0 (io), A5 I/O22 C6 (io), A6 I/O17 C1 (io), A7 I/O30 D6 (io), A8 I/O27 D3 (io), A9 I/O6 A6 (io), A10 I/O5 A5 (io), A11 I/O0 A0 (io), AA3 I/O116 O4 (io), AA4 I/O113 O1 (io), AA5 I/O109 N5 (io), AA6 I/O108 N4 (io), AA7 I/O103 M7 (io), AA8 I/O100 M4 (io), AA9 I/O127 P7 (io), AB2 I/O117 O5 (io), AB3 I/O114 O2 (io), AB4 I/O112 O0 (io), AB5 I/O107 N3 (io), AB6 I/O105 N1 (io), AB7 I/O102 M6 (io), AB8 I/O97 M1 (io), AB9 I/O126 P6 (io), AB10 I/O124 P4 (io), AB11 I/O120 P0 (io), B3 I/O13 B5 (io), B4 I/O12 B4 (io), B5 I/O9 B1 (io), B6 I/O20 C4 (io), B7 I/O31 D7 (io), B8 I/O29 D5 (io), B9 I/O26 D2 (io), B11 I/O2 A2 (io), C1 I/O44 F4 (io), C2 I/O47 F7 (io), C4 I/O15 B7 (io), C5 I/O11 B3 (io), C6 I/O23 C7 (io), C7 I/O18 C2 (io), C8 I/O16 C0 (io), C9 I/O25 D1 (io), C10 I/O7 A7 (io), C11 I/O11 A1 (io), D1 I/O41 F1 (io), D2 I/O43 F3 (io), D3 I/O46 F6 (io), D5 I/O14 B6 (io), D7 I/O21 C5 (io), D8 I/O19 C3 (io), D10 I/O24 D0 (io), D11 I/O3 A3 (io), E1 I/O54 G6 (io), E2 I/O40 F0 (io), E3 I/O42 F2 (io), E4 I/O45 F5 (io), F1 I/O50 G2 (io), F2 I/O52 G4 (io), F3 I/O55 G7 (io), G1 I/O39 E7 (io), G2 I/O49 G1 (io), G3 I/O51 G3 (io), G4 I/O53 G5 (io), G10 I/O28 D4 (io), G11 I/O4 A4 (io), H1 I/O36 E4 (io), H2 I/O37 E5 (io), H3 I/O38 E6 (io), H4 I/O48 G0 (io), J1 I/O32 E0 (io), J2 I/O34 E2 (io), J3 I/O35 E3 (io), K1 I/O60 H4 (io), K2 I/O61 H5 (io), K3 I/O62 H6 (io), K4 I/O63 H7 (io), K7 I/O33 E1 (io), L1 I/O56 H0 (io), L2 I/O57 H1 (io), L3 I/O59 H3 (io), L7 I/O58 H2 (io), M1 I/O64 I0 (io), M2 I/O66 I2 (io), M3 I/O65 I1 (io), M4 I/O67 I3 (io), M7 I/O69 I5 (io), N1 I/O68 I4 (io), N2 I/O70 I6 (io), N3 I/O71 I7 (io), N4 I/O88 L0 (io), N7 I/O89 L1 (io), P1 I/O90 L2 (io), P2 I/O91 L3 (io), P3 I/O92 L4 (io), R1 I/O93 L5 (io), R2 I/O94 L6 (io), R3 I/O95 L7 (io), R4 I/O74 J2 (io), T1 I/O72 J0 (io), T2 I/O73 J1 (io), T3 I/O76 J4 (io), T4 I/O78 J6 (io), T10 I/O98 M2 (io), T11 I/O122 P2 (io), U1 I/O75 J3 (io), U2 I/O77 J5 (io), U3 I/O80 K0 (io), V1 I/O79 J7 (io), V2 I/O81 K1 (io), V3 I/O83 K3 (io), V4 I/O86 K6 (io), W1 I/O82 K2 (io), W2 I/O84 K4 (io), W3 I/O87 K7 (io), W5 I/O119 O7 (io), W7 I/O111 N7 (io), W8 I/O104 N0 (io), W10 I/O96 M0 (io), W12 I/O123 P3 (io), Y1 I/O85 K5 (io), Y4 I/O118 O6 (io), Y5 I/O115 O3 (io), Y6 I/O110 N6 (io), Y7 I/O106 N2 (io), Y8 I/O101 M5 (io), Y9 I/O99 M3 (io), Y10 I/O125 P5 (io), Y11 I/O121 P1 (io)
part B pins: A12 I/O248 PX0 (io), A13 I/O251 PX3 (io), A14 I/O255 PX7 (io), A15 I/O226 MX2 (io), A16 I/O228 MX4 (io), A17 I/O231 MX7 (io), A18 I/O236 NX4 (io), A19 I/O241 OX1 (io), A20 I/O240 OX0 (io), A21 I/O243 OX3 (io), AA11 I/O128 AX0 (io), AA12 I/O130 AX2 (io), AA13 I/O134 AX6 (io), AA14 I/O154 DX2 (io), AA15 I/O157 DX5 (io), AA16 I/O144 CX0 (io), AA17 I/O149 CX5 (io), AA18 I/O151 CX7 (io), AA19 I/O140 BX4 (io), AA20 I/O142 BX6 (io), AA22 I/O175 FX7 (io), AB12 I/O129 AX1 (io), AB13 I/O133 AX5 (io), AB14 I/O135 AX7 (io), AB15 I/O155 DX3 (io), AB16 I/O159 DX7 (io), AB17 I/O146 CX2 (io), AB18 I/O148 CX4 (io), AB19 I/O137 BX1 (io), AB20 I/O139 BX3 (io), B12 I/O249 PX1 (io), B13 I/O253 PX5 (io), B14 I/O224 MX0 (io), B15 I/O229 MX5 (io), B16 I/O232 NX0 (io), B17 I/O234 NX2 (io), B18 I/O238 NX6 (io), B19 I/O242 OX2 (io), B20 I/O245 OX5 (io), C12 I/O250 PX2 (io), C14 I/O227 MX3 (io), C15 I/O230 MX6 (io), C16 I/O235 NX3 (io), C17 I/O239 NX7 (io), C18 I/O244 OX4 (io), C19 I/O247 OX7 (io), C22 I/O213 KX5 (io), D13 I/O254 PX6 (io), D15 I/O233 NX1 (io), D16 I/O237 NX5 (io), D18 I/O246 OX6 (io), D20 I/O215 KX7 (io), D21 I/O212 KX4 (io), D22 I/O210 KX2 (io), E19 I/O214 KX6 (io), E20 I/O211 KX3 (io), E21 I/O209 KX1 (io), E22 I/O207 JX7 (io), F20 I/O208 KX0 (io), F21 I/O205 JX5 (io), F22 I/O203 JX3 (io), G12 I/O252 PX4 (io), G13 I/O225 MX1 (io), G19 I/O206 JX6 (io), G20 I/O204 JX4 (io), G21 I/O202 JX2 (io), G22 I/O200 JX0 (io), H19 I/O201 JX1 (io), H20 I/O223 LX7 (io), H21 I/O222 LX6 (io), H22 I/O221 LX5 (io), J20 I/O220 LX4 (io), J21 I/O219 LX3 (io), J22 I/O218 LX2 (io), K16 I/O217 LX1 (io), K19 I/O216 LX0 (io), K20 I/O199 IX7 (io), K21 I/O198 IX6 (io), K22 I/O197 IX5 (io), L16 I/O193 IX1 (io), L19 I/O196 IX4 (io), L20 I/O195 IX3 (io), L21 I/O194 IX2 (io), L22 I/O192 IX0 (io), M16 I/O186 HX2 (io), M20 I/O187 HX3 (io), M21 I/O185 HX1 (io), M22 I/O184 HX0 (io), N16 I/O162 EX2 (io), N19 I/O190 HX6 (io), N20 I/O191 HX7 (io), N21 I/O189 HX5 (io), N22 I/O188 HX4 (io), P20 I/O163 EX3 (io), P21 I/O161 EX1 (io), P22 I/O160 EX0 (io), R19 I/O177 GX1 (io), R20 I/O166 EX6 (io), R21 I/O165 EX5 (io), R22 I/O164 EX4 (io), T12 I/O131 AX3 (io), T13 I/O152 DX0 (io), T19 I/O181 GX5 (io), T20 I/O179 GX3 (io), T21 I/O176 GX0 (io), T22 I/O167 EX7 (io), U20 I/O183 GX7 (io), U21 I/O180 GX4 (io), U22 I/O178 GX2 (io), V19 I/O172 FX4 (io), V20 I/O169 FX1 (io), V22 I/O182 GX6 (io), W13 I/O153 DX1 (io), W15 I/O145 CX1 (io), W16 I/O150 CX6 (io), W18 I/O143 BX7 (io), W20 I/O173 FX5 (io), W21 I/O170 FX2 (io), W22 I/O168 FX0 (io), Y12 I/O132 AX4 (io), Y14 I/O156 DX4 (io), Y15 I/O158 DX6 (io), Y16 I/O147 CX3 (io), Y17 I/O136 BX0 (io), Y18 I/O138 BX2 (io), Y19 I/O141 BX5 (io), Y21 I/O174 FX6 (io), Y22 I/O171 FX3 (io)
part C pins: A1 GND (power), A2 NC, A22 GND (power), AA1 TCK (in), AA2 GND (power), AA10 CLK1 (in), AA21 GND (power), AB1 GND (power), AB21 NC, AB22 GND (power), B1 TDI (in), B2 GND (power), B10 CLK0 (in), B21 GND (power), B22 NC, C3 GND (power), C13 CLK3 (in), C20 GND (power), C21 TDO (out), D4 GND (power), D6 VCC (power), D9 VCC (power), D12 VCC (power), D14 VCC (power), D17 VCC (power), D19 GND (power), F4 VCC (power), F19 VCC (power), G7 VCC (power), G8 VCC (power), G9 NC, G14 NC, G15 VCC (power), G16 VCC (power), H7 VCC (power), H8 NC, H9 GND (power), H10 GND (power), H11 GND (power), H12 GND (power), H13 GND (power), H14 GND (power), H15 NC, H16 VCC (power), J4 VCC (power), J7 NC, J8 GND (power), J9 GND (power), J10 GND (power), J11 GND (power), J12 GND (power), J13 GND (power), J14 GND (power), J15 GND (power), J16 NC, J19 VCC (power), K8 GND (power), K9 GND (power), K10 GND (power), K11 GND (power), K12 GND (power), K13 GND (power), K14 GND (power), K15 GND (power), L4 VCC (power), L8 GND (power), L9 GND (power), L10 GND (power), L11 GND (power), L12 GND (power), L13 GND (power), L14 GND (power), L15 GND (power), M8 GND (power), M9 GND (power), M10 GND (power), M11 GND (power), M12 GND (power), M13 GND (power), M14 GND (power), M15 GND (power), M19 VCC (power), N8 GND (power), N9 GND (power), N10 GND (power), N11 GND (power), N12 GND (power), N13 GND (power), N14 GND (power), N15 GND (power), P4 VCC (power), P7 NC, P8 GND (power), P9 GND (power), P10 GND (power), P11 GND (power), P12 GND (power), P13 GND (power), P14 GND (power), P15 GND (power), P16 NC, P19 VCC (power), R7 VCC (power), R8 NC, R9 GND (power), R10 GND (power), R11 GND (power), R12 GND (power), R13 GND (power), R14 GND (power), R15 NC, R16 VCC (power), T7 VCC (power), T8 VCC (power), T9 NC, T14 NC, T15 VCC (power), T16 VCC (power), U4 VCC (power), U19 VCC (power), V21 NC, W4 GND (power), W6 VCC (power), W9 VCC (power), W11 VCC (power), W14 VCC (power), W17 VCC (power), W19 GND (power), Y2 TMS (in), Y3 GND (power), Y13 CLK2 (in), Y20 GND (power)

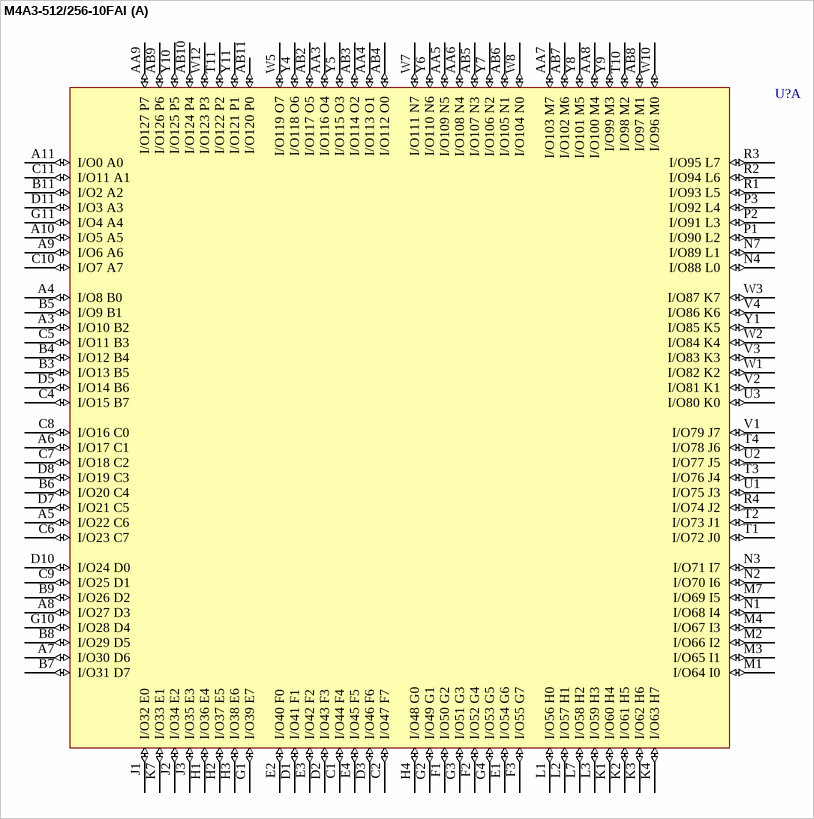
[diagram p100: symbol M4A3-512/256-10FAI]

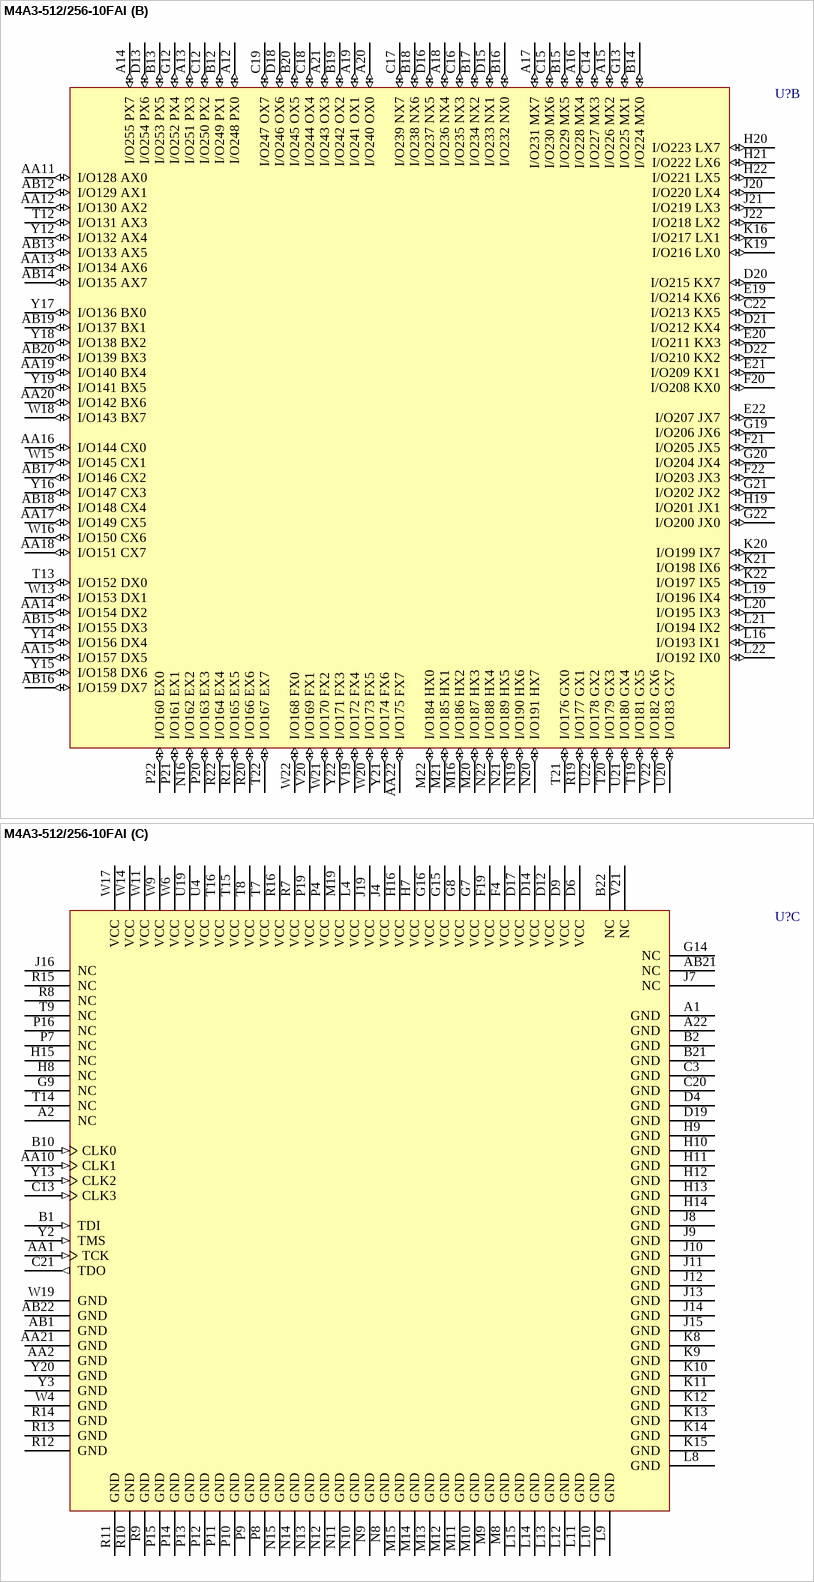
[diagram p101: symbol M4A3-512/256-10FAI]

## M4A3-512/256-10FAI
designator U?
High-Performance EE CMOS In-System Programmable Logic; Published: 17-Jul-2002; LatestRevisionDate: 13-Apr-2006; LatestRevisionNote: IPC-7351 Footprint Added.; DatasheetVersion: Feb-2001; PackageVersion: pkg_32, Aug-2005; PackageReference: fpBGA388; Publisher: Altium Limited; PackageDescription: 388-Ball Fine Pitch Ball Grid Array (fpBGA388); ComponentLink1Description: Manufacturer Link; ComponentLink1URL: http://www.latticesemi.com/products/mature/index.cfm; ComponentLink2Description: Datasheet; ComponentLink2URL: http://www.latticesemi.com/account/_download.cfm?AMID=1344
footprint fpBGA388 (BGA, 388-Leads, Body 23x23mm, Pitch 1mm)
3D model M4A3-fpBGA388 (388-Ball Fine Pitch Ball Grid Array (fpBGA388))
part A pins: A3 I/O10 B2 (io), A4 I/O8 B0 (io), A5 I/O22 C6 (io), A6 I/O17 C1 (io), A7 I/O30 D6 (io), A8 I/O27 D3 (io), A9 I/O6 A6 (io), A10 I/O5 A5 (io), A11 I/O0 A0 (io), AA3 I/O116 O4 (io), AA4 I/O113 O1 (io), AA5 I/O109 N5 (io), AA6 I/O108 N4 (io), AA7 I/O103 M7 (io), AA8 I/O100 M4 (io), AA9 I/O127 P7 (io), AB2 I/O117 O5 (io), AB3 I/O114 O2 (io), AB4 I/O112 O0 (io), AB5 I/O107 N3 (io), AB6 I/O105 N1 (io), AB7 I/O102 M6 (io), AB8 I/O97 M1 (io), AB9 I/O126 P6 (io), AB10 I/O124 P4 (io), AB11 I/O120 P0 (io), B3 I/O13 B5 (io), B4 I/O12 B4 (io), B5 I/O9 B1 (io), B6 I/O20 C4 (io), B7 I/O31 D7 (io), B8 I/O29 D5 (io), B9 I/O26 D2 (io), B11 I/O2 A2 (io), C1 I/O44 F4 (io), C2 I/O47 F7 (io), C4 I/O15 B7 (io), C5 I/O11 B3 (io), C6 I/O23 C7 (io), C7 I/O18 C2 (io), C8 I/O16 C0 (io), C9 I/O25 D1 (io), C10 I/O7 A7 (io), C11 I/O11 A1 (io), D1 I/O41 F1 (io), D2 I/O43 F3 (io), D3 I/O46 F6 (io), D5 I/O14 B6 (io), D7 I/O21 C5 (io), D8 I/O19 C3 (io), D10 I/O24 D0 (io), D11 I/O3 A3 (io), E1 I/O54 G6 (io), E2 I/O40 F0 (io), E3 I/O42 F2 (io), E4 I/O45 F5 (io), F1 I/O50 G2 (io), F2 I/O52 G4 (io), F3 I/O55 G7 (io), G1 I/O39 E7 (io), G2 I/O49 G1 (io), G3 I/O51 G3 (io), G4 I/O53 G5 (io), G10 I/O28 D4 (io), G11 I/O4 A4 (io), H1 I/O36 E4 (io), H2 I/O37 E5 (io), H3 I/O38 E6 (io), H4 I/O48 G0 (io), J1 I/O32 E0 (io), J2 I/O34 E2 (io), J3 I/O35 E3 (io), K1 I/O60 H4 (io), K2 I/O61 H5 (io), K3 I/O62 H6 (io), K4 I/O63 H7 (io), K7 I/O33 E1 (io), L1 I/O56 H0 (io), L2 I/O57 H1 (io), L3 I/O59 H3 (io), L7 I/O58 H2 (io), M1 I/O64 I0 (io), M2 I/O66 I2 (io), M3 I/O65 I1 (io), M4 I/O67 I3 (io), M7 I/O69 I5 (io), N1 I/O68 I4 (io), N2 I/O70 I6 (io), N3 I/O71 I7 (io), N4 I/O88 L0 (io), N7 I/O89 L1 (io), P1 I/O90 L2 (io), P2 I/O91 L3 (io), P3 I/O92 L4 (io), R1 I/O93 L5 (io), R2 I/O94 L6 (io), R3 I/O95 L7 (io), R4 I/O74 J2 (io), T1 I/O72 J0 (io), T2 I/O73 J1 (io), T3 I/O76 J4 (io), T4 I/O78 J6 (io), T10 I/O98 M2 (io), T11 I/O122 P2 (io), U1 I/O75 J3 (io), U2 I/O77 J5 (io), U3 I/O80 K0 (io), V1 I/O79 J7 (io), V2 I/O81 K1 (io), V3 I/O83 K3 (io), V4 I/O86 K6 (io), W1 I/O82 K2 (io), W2 I/O84 K4 (io), W3 I/O87 K7 (io), W5 I/O119 O7 (io), W7 I/O111 N7 (io), W8 I/O104 N0 (io), W10 I/O96 M0 (io), W12 I/O123 P3 (io), Y1 I/O85 K5 (io), Y4 I/O118 O6 (io), Y5 I/O115 O3 (io), Y6 I/O110 N6 (io), Y7 I/O106 N2 (io), Y8 I/O101 M5 (io), Y9 I/O99 M3 (io), Y10 I/O125 P5 (io), Y11 I/O121 P1 (io)
part B pins: A12 I/O248 PX0 (io), A13 I/O251 PX3 (io), A14 I/O255 PX7 (io), A15 I/O226 MX2 (io), A16 I/O228 MX4 (io), A17 I/O231 MX7 (io), A18 I/O236 NX4 (io), A19 I/O241 OX1 (io), A20 I/O240 OX0 (io), A21 I/O243 OX3 (io), AA11 I/O128 AX0 (io), AA12 I/O130 AX2 (io), AA13 I/O134 AX6 (io), AA14 I/O154 DX2 (io), AA15 I/O157 DX5 (io), AA16 I/O144 CX0 (io), AA17 I/O149 CX5 (io), AA18 I/O151 CX7 (io), AA19 I/O140 BX4 (io), AA20 I/O142 BX6 (io), AA22 I/O175 FX7 (io), AB12 I/O129 AX1 (io), AB13 I/O133 AX5 (io), AB14 I/O135 AX7 (io), AB15 I/O155 DX3 (io), AB16 I/O159 DX7 (io), AB17 I/O146 CX2 (io), AB18 I/O148 CX4 (io), AB19 I/O137 BX1 (io), AB20 I/O139 BX3 (io), B12 I/O249 PX1 (io), B13 I/O253 PX5 (io), B14 I/O224 MX0 (io), B15 I/O229 MX5 (io), B16 I/O232 NX0 (io), B17 I/O234 NX2 (io), B18 I/O238 NX6 (io), B19 I/O242 OX2 (io), B20 I/O245 OX5 (io), C12 I/O250 PX2 (io), C14 I/O227 MX3 (io), C15 I/O230 MX6 (io), C16 I/O235 NX3 (io), C17 I/O239 NX7 (io), C18 I/O244 OX4 (io), C19 I/O247 OX7 (io), C22 I/O213 KX5 (io), D13 I/O254 PX6 (io), D15 I/O233 NX1 (io), D16 I/O237 NX5 (io), D18 I/O246 OX6 (io), D20 I/O215 KX7 (io), D21 I/O212 KX4 (io), D22 I/O210 KX2 (io), E19 I/O214 KX6 (io), E20 I/O211 KX3 (io), E21 I/O209 KX1 (io), E22 I/O207 JX7 (io), F20 I/O208 KX0 (io), F21 I/O205 JX5 (io), F22 I/O203 JX3 (io), G12 I/O252 PX4 (io), G13 I/O225 MX1 (io), G19 I/O206 JX6 (io), G20 I/O204 JX4 (io), G21 I/O202 JX2 (io), G22 I/O200 JX0 (io), H19 I/O201 JX1 (io), H20 I/O223 LX7 (io), H21 I/O222 LX6 (io), H22 I/O221 LX5 (io), J20 I/O220 LX4 (io), J21 I/O219 LX3 (io), J22 I/O218 LX2 (io), K16 I/O217 LX1 (io), K19 I/O216 LX0 (io), K20 I/O199 IX7 (io), K21 I/O198 IX6 (io), K22 I/O197 IX5 (io), L16 I/O193 IX1 (io), L19 I/O196 IX4 (io), L20 I/O195 IX3 (io), L21 I/O194 IX2 (io), L22 I/O192 IX0 (io), M16 I/O186 HX2 (io), M20 I/O187 HX3 (io), M21 I/O185 HX1 (io), M22 I/O184 HX0 (io), N16 I/O162 EX2 (io), N19 I/O190 HX6 (io), N20 I/O191 HX7 (io), N21 I/O189 HX5 (io), N22 I/O188 HX4 (io), P20 I/O163 EX3 (io), P21 I/O161 EX1 (io), P22 I/O160 EX0 (io), R19 I/O177 GX1 (io), R20 I/O166 EX6 (io), R21 I/O165 EX5 (io), R22 I/O164 EX4 (io), T12 I/O131 AX3 (io), T13 I/O152 DX0 (io), T19 I/O181 GX5 (io), T20 I/O179 GX3 (io), T21 I/O176 GX0 (io), T22 I/O167 EX7 (io), U20 I/O183 GX7 (io), U21 I/O180 GX4 (io), U22 I/O178 GX2 (io), V19 I/O172 FX4 (io), V20 I/O169 FX1 (io), V22 I/O182 GX6 (io), W13 I/O153 DX1 (io), W15 I/O145 CX1 (io), W16 I/O150 CX6 (io), W18 I/O143 BX7 (io), W20 I/O173 FX5 (io), W21 I/O170 FX2 (io), W22 I/O168 FX0 (io), Y12 I/O132 AX4 (io), Y14 I/O156 DX4 (io), Y15 I/O158 DX6 (io), Y16 I/O147 CX3 (io), Y17 I/O136 BX0 (io), Y18 I/O138 BX2 (io), Y19 I/O141 BX5 (io), Y21 I/O174 FX6 (io), Y22 I/O171 FX3 (io)
part C pins: A1 GND (power), A2 NC, A22 GND (power), AA1 TCK (in), AA2 GND (power), AA10 CLK1 (in), AA21 GND (power), AB1 GND (power), AB21 NC, AB22 GND (power), B1 TDI (in), B2 GND (power), B10 CLK0 (in), B21 GND (power), B22 NC, C3 GND (power), C13 CLK3 (in), C20 GND (power), C21 TDO (out), D4 GND (power), D6 VCC (power), D9 VCC (power), D12 VCC (power), D14 VCC (power), D17 VCC (power), D19 GND (power), F4 VCC (power), F19 VCC (power), G7 VCC (power), G8 VCC (power), G9 NC, G14 NC, G15 VCC (power), G16 VCC (power), H7 VCC (power), H8 NC, H9 GND (power), H10 GND (power), H11 GND (power), H12 GND (power), H13 GND (power), H14 GND (power), H15 NC, H16 VCC (power), J4 VCC (power), J7 NC, J8 GND (power), J9 GND (power), J10 GND (power), J11 GND (power), J12 GND (power), J13 GND (power), J14 GND (power), J15 GND (power), J16 NC, J19 VCC (power), K8 GND (power), K9 GND (power), K10 GND (power), K11 GND (power), K12 GND (power), K13 GND (power), K14 GND (power), K15 GND (power), L4 VCC (power), L8 GND (power), L9 GND (power), L10 GND (power), L11 GND (power), L12 GND (power), L13 GND (power), L14 GND (power), L15 GND (power), M8 GND (power), M9 GND (power), M10 GND (power), M11 GND (power), M12 GND (power), M13 GND (power), M14 GND (power), M15 GND (power), M19 VCC (power), N8 GND (power), N9 GND (power), N10 GND (power), N11 GND (power), N12 GND (power), N13 GND (power), N14 GND (power), N15 GND (power), P4 VCC (power), P7 NC, P8 GND (power), P9 GND (power), P10 GND (power), P11 GND (power), P12 GND (power), P13 GND (power), P14 GND (power), P15 GND (power), P16 NC, P19 VCC (power), R7 VCC (power), R8 NC, R9 GND (power), R10 GND (power), R11 GND (power), R12 GND (power), R13 GND (power), R14 GND (power), R15 NC, R16 VCC (power), T7 VCC (power), T8 VCC (power), T9 NC, T14 NC, T15 VCC (power), T16 VCC (power), U4 VCC (power), U19 VCC (power), V21 NC, W4 GND (power), W6 VCC (power), W9 VCC (power), W11 VCC (power), W14 VCC (power), W17 VCC (power), W19 GND (power), Y2 TMS (in), Y3 GND (power), Y13 CLK2 (in), Y20 GND (power)

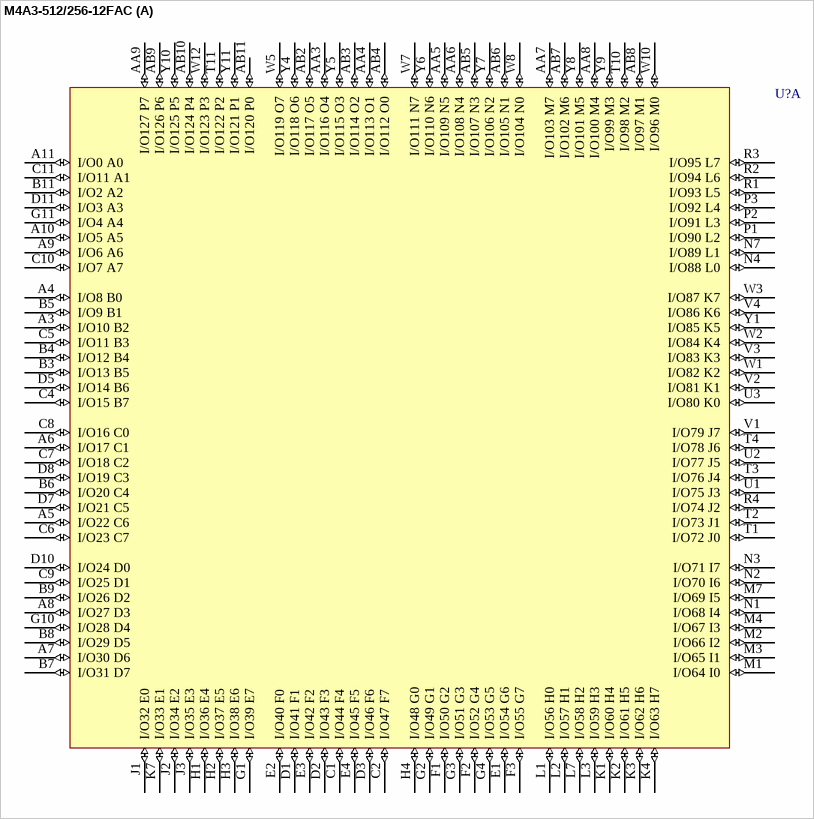
[diagram p102: symbol M4A3-512/256-12FAC]

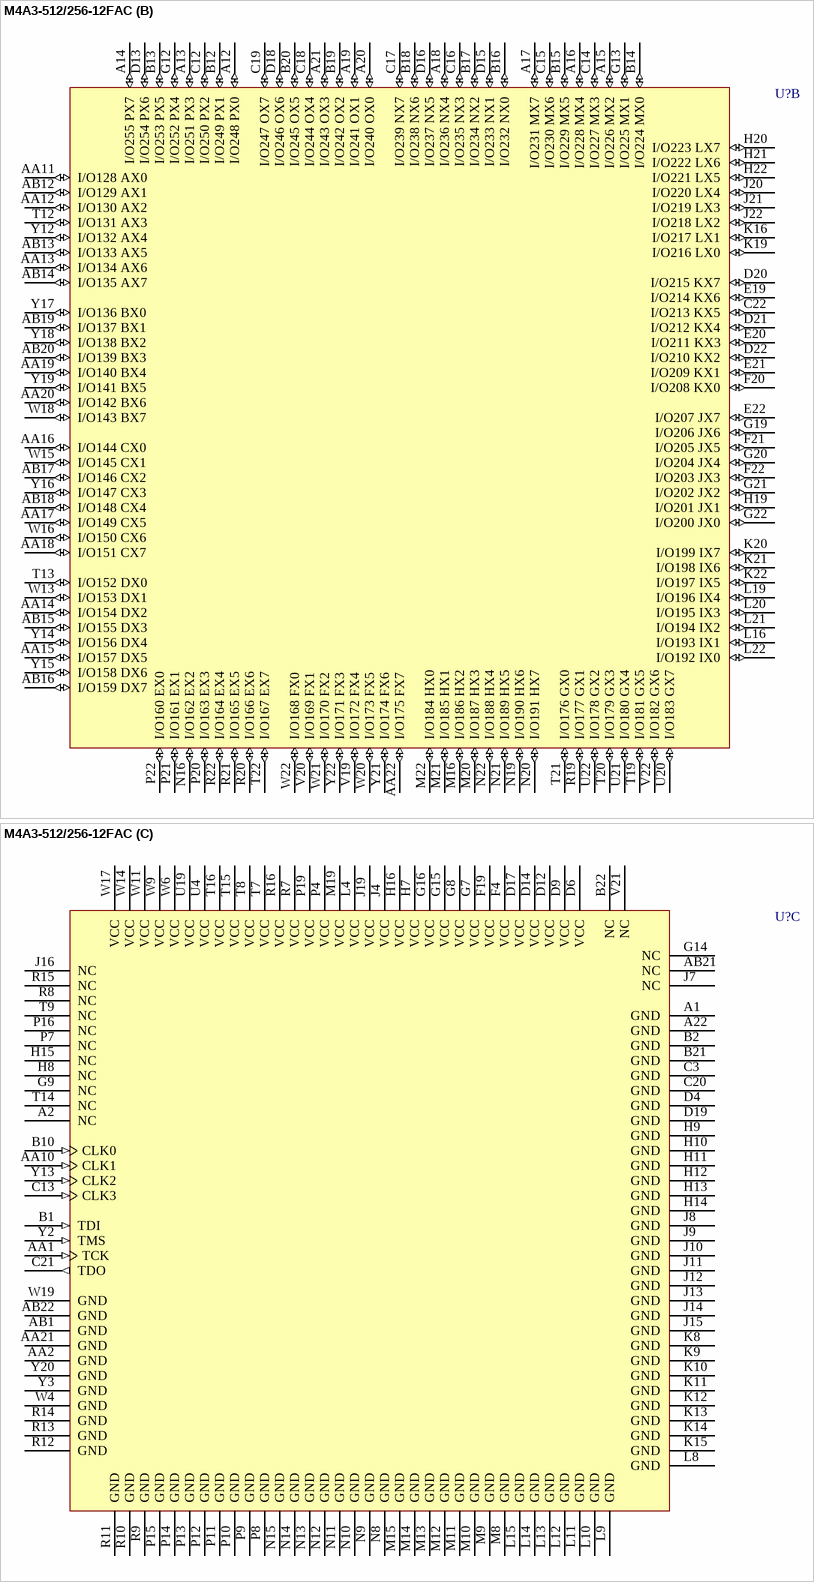
[diagram p103: symbol M4A3-512/256-12FAC]